# Altium integrated library Altera Arria GX.IntLib: 44 symbols (part 3 of 23)
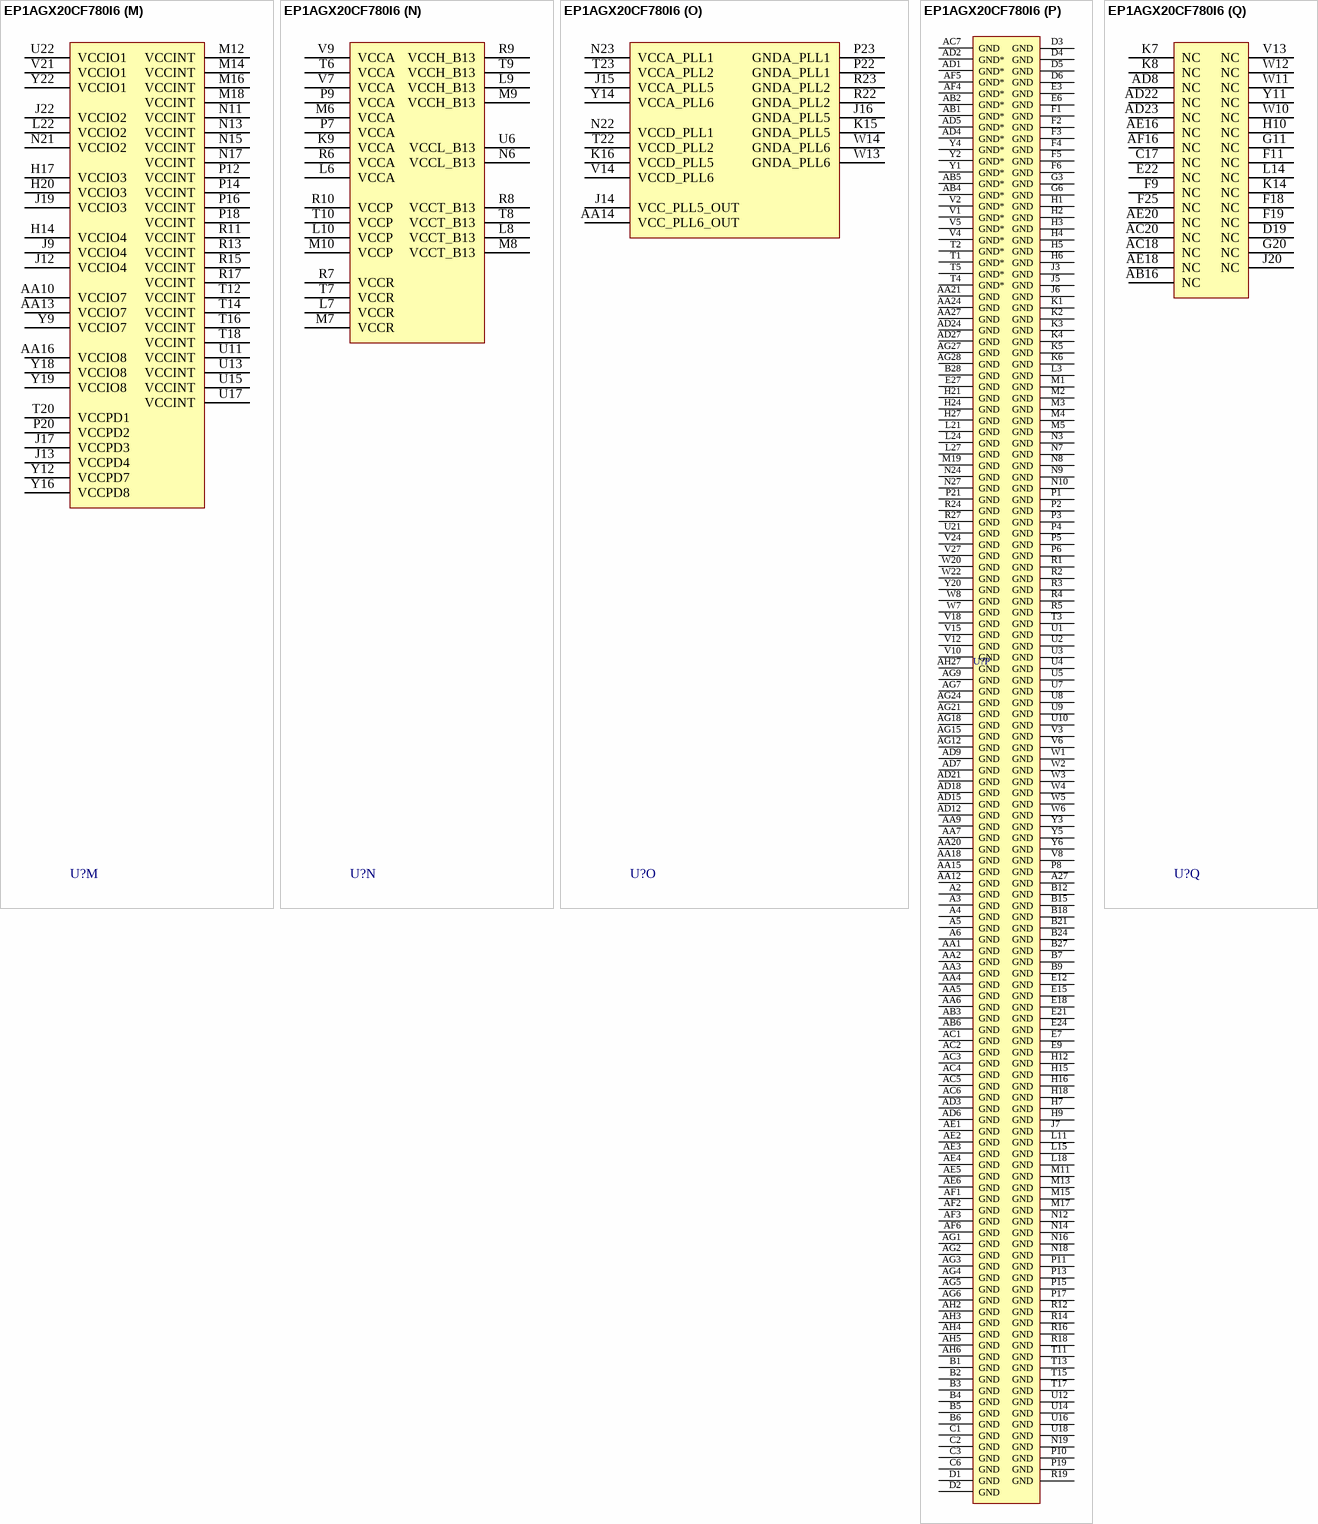
[diagram p142: symbol EP1AGX20CF780I6]

## EP1AGX20CF780I6
designator U?
Arria GX Family FPGA, 366 I/O Pins, 4 PLLs, 780-Pin FPGA, Speed Grade 6, Industrial Grade; Note: DQS signal pins named according to DQ bus modes.  "/" separates each mode. ie. Modes x8/x9 / Modes x16/x18.; DatasheetVersion: ver1.3, May-2008; PackageVersion: ver16.0, Dec-2009; PackageReference: FBGA780; PackageDescription: 780-Ball FineLine Ball Grid Array (FBGA780) - Option 1 - Flip Chip; Code_JEDEC: MS-034-AAM-1; ComponentLink1Description: Manufacturer URL; ComponentLink1URL: http://www.altera.com/; ComponentLink2Description: Datasheet; ComponentLink2URL: http://www.altera.com/literature/hb/agx/arriagx_handbook.pdf; ComponentLink3Description: Package Specification; ComponentLink3URL: http://www.altera.com/literature/ds/dspkg.pdf
footprint FBGA780 (BGA, 780-Leads, Body 29x29mm, Pitch 1mm)
part A pins: AA22 IO, DIFFIO_TX0n (io), AA23 IO, DIFFIO_TX0p (io), AA25 IO, DIFFIO_TX8n (io), AA26 IO, DIFFIO_TX8p (io), AA28 IO, DIFFIO_RX11n (io), AB21 IO, DIFFIO_TX4n (io), AB22 IO, DIFFIO_TX4p (io), AB23 IO, DIFFIO_TX2n (io), AB24 IO, DIFFIO_TX2p (io), AB25 IO, DIFFIO_RX2n (io), AB26 IO, DIFFIO_RX2p (io), AB27 IO, DIFFIO_RX7n (io), AB28 IO, DIFFIO_RX7p (io), AC22 IO, DIFFIO_TX1n (io), AC23 IO, DIFFIO_TX1p (io), AC24 IO, DIFFIO_TX5n (io), AC25 IO, DIFFIO_TX5p (io), AC26 IO, DIFFIO_RX3n (io), AC27 IO, DIFFIO_RX3p (io), AC28 IO, DIFFIO_RX6p (io), AD25 IO, DIFFIO_RX5n (io), AD26 IO, DIFFIO_RX5p (io), AD28 IO, DIFFIO_RX6n (io), AE25 IO, DIFFIO_TX3n (io), AE26 IO, DIFFIO_TX3p (io), AE27 IO, DIFFIO_RX1n (io), AE28 IO, DIFFIO_RX1p (io), AF27 IO, DIFFIO_RX0n (io), AF28 IO, DIFFIO_RX0p (io), T19 IO, DIFFIO_TX12p (io), U19 IO, DIFFIO_TX12n (io), U20 IO, DIFFIO_TX11p (io), U23 IO, DIFFIO_TX9n (io), U24 IO, DIFFIO_TX9p (io), U27 IO, CLK2n/DIFFIO_RX_C1n (io), U28 IO, CLK2p/DIFFIO_RX_C1p (io), V20 IO, DIFFIO_TX11n (io), V22 IO, DIFFIO_TX7n (io), V23 IO, DIFFIO_TX7p (io), V25 IO, DIFFIO_RX8n (io), V26 IO, DIFFIO_RX8p (io), V28 IO, DIFFIO_RX12p (io), W21 IO, DIFFIO_TX6p (io), W24 IO, DIFFIO_RX4n (io), W25 IO, DIFFIO_RX4p (io), W26 IO, DIFFIO_RX10n (io), W27 IO, DIFFIO_RX10p (io), W28 IO, DIFFIO_RX12n (io), Y21 IO, DIFFIO_TX6n (io), Y24 IO, DIFFIO_TX10n (io), Y25 IO, DIFFIO_TX10p (io), Y26 IO, DIFFIO_RX9n (io), Y27 IO, DIFFIO_RX9p (io), Y28 IO, DIFFIO_RX11p (io)
part B pins: C27 IO, DIFFIO_RX28n (io), C28 IO, DIFFIO_RX28p (io), D27 IO, DIFFIO_RX27n (io), D28 IO, DIFFIO_RX27p (io), E25 IO, DIFFIO_TX25n (io), E26 IO, DIFFIO_TX25p (io), E28 IO, DIFFIO_RX25p (io), F23 IO, DIFFIO_TX27n (io), F24 IO, DIFFIO_TX27p (io), F26 IO, DIFFIO_RX26n (io), F27 IO, DIFFIO_RX26p (io), F28 IO, DIFFIO_RX25n (io), G23 IO, DIFFIO_TX26n (io), G24 IO, DIFFIO_TX26p (io), G25 IO, DIFFIO_TX21n (io), G26 IO, DIFFIO_TX21p (io), G27 IO, DIFFIO_RX24n (io), G28 IO, DIFFIO_RX24p (io), H22 IO, DIFFIO_TX28n (io), H23 IO, DIFFIO_TX28p (io), H25 IO, DIFFIO_TX18n (io), H26 IO, DIFFIO_TX18p (io), H28 IO, DIFFIO_RX22p (io), J23 IO, DIFFIO_TX24n (io), J24 IO, DIFFIO_TX19n (io), J25 IO, DIFFIO_TX19p (io), J26 IO, DIFFIO_RX23n (io), J27 IO, DIFFIO_RX23p (io), J28 IO, DIFFIO_RX22n (io), K21 IO, DIFFIO_TX23n (io), K22 IO, DIFFIO_TX23p (io), K23 IO, DIFFIO_TX22p (io), K24 IO, DIFFIO_TX24p (io), K25 IO, DIFFIO_TX17n (io), K26 IO, DIFFIO_TX17p (io), K27 IO, DIFFIO_RX20n (io), K28 IO, DIFFIO_RX20p (io), L23 IO, DIFFIO_TX22n (io), L25 IO, DIFFIO_RX21n (io), L26 IO, DIFFIO_RX21p (io), L28 IO, DIFFIO_RX18p (io), M20 IO, DIFFIO_TX14p (io), M21 IO, DIFFIO_TX20n (io), M22 IO, DIFFIO_TX20p (io), M24 IO, DIFFIO_TX16n (io), M25 IO, DIFFIO_TX16p (io), M26 IO, DIFFIO_RX19n (io), M27 IO, DIFFIO_RX19p (io), M28 IO, DIFFIO_RX18n (io), N20 IO, DIFFIO_TX14n (io), N25 IO, DIFFIO_RX16n (io), N26 IO, DIFFIO_RX16p (io), N28 IO, DIFFIO_RX17p (io), P24 IO, DIFFIO_TX15n (io), P25 IO, DIFFIO_TX15p (io), P26 IO, DIFFIO_RX15n (io), P27 IO, DIFFIO_RX15p (io), P28 IO, DIFFIO_RX17n (io), R20 IO, DIFFIO_TX13n (io), R21 IO, DIFFIO_TX13p (io), R25 IO, CLK0n/DIFFIO_RX_C0n (io), R26 IO, CLK0p/DIFFIO_RX_C0p (io), R28 IO, DIFFIO_RX14p (io), T26 IO, DIFFIO_RX13n (io), T27 IO, DIFFIO_RX13p (io), T28 IO, DIFFIO_RX14n (io)
part C pins: A17 IO, CLK14p (io), A18 IO, DQ11T, DQ2T/DQ1T (io), A19 IO, DQS11T, DQS2T/_ (io), A20 IO, DQ11T, DQ2T/DQ1T (io), A21 IO, DQ13T, DQ2T/DQ1T (io), A22 IO, DQ13T, DQ2T/DQ1T (io), A23 IO, DQ15T, DQ3T/DQ1T (io), A24 IO, DQ15T, DQ3T/DQ1T (io), A25 IO, DQ17T, DQ3T/DQ1T (io), A26 IO, DQ17T, DQ3T/DQ1T (io), B17 IO, CLK14n (io), B19 IO, _/DQ1T (io), B20 IO, DQS13T, _/DQS1T (io), B22 IO, DQ13T, DQ2T/DQ1T (io), B23 IO, DQS15T, DQS3T/_ (io), B25 IO, DQS17T (io), B26 IO, DQ17T, DQ3T/_ (io), C16 IO, CLK15p (io), C18 IO, DQ11T, DQ2T/DQ1T (io), C19 IO, DQ11T, DQ2T/DQ1T (io), C20 IO, DQ2T/_ (io), C21 IO, DQ13T, DQ2T/DQ1T (io), C22 IO, DQ15T, DQ3T/DQ1T (io), C23 IO, _/DQ1T (io), C24 IO, DQ15T, DQ3T/DQ1T (io), C25 IO, DQ3T/DQ1T (io), C26 IO, DQ17T, DQ3T/DQ1T (io), D16 IO, CLK15n (io), D17 IO (nCSO) (io), D18 IO (io), D20 IO (io), D21 IO (DATA3) (io), D22 IO (DATA7) (io), D23 IO (DATA5) (io), E16 IO (PGM2) (io), E17 IO (CRC_ERROR) (io), F16 IO (PGM1) (io), F17 IO (DATA0) (io), F20 IO (io), F21 IO (DATA2) (io), F22 IO (DATA6) (io), G16 IO (PGM0) (io), G17 IO (io), G18 IO (io), G19 IO (io), G21 IO (DATA4) (io), G22 IO (INIT_DONE) (io), H19 IO (io), J18 IO (io), J21 IO (RDYnBSY) (io), K17 IO (DATA1) (io), K18 IO (io), K19 IO (io), K20 IO (io), L16 IO (ASDO) (io), L17 IO (io), L19 IO (io), L20 IO (io)
part D pins: A7 IO, DQ1T (io), A8 IO, DQ1T (io), A9 IO, DQ3T, DQ0T/DQ0T (io), A10 IO, DQ5T, DQ0T/DQ0T (io), A11 IO, DQ7T, DQ1T/DQ0T (io), A12 IO, DQ7T, DQ1T/DQ0T (io), A13 IO, DQ9T, DQ1T/DQ0T (io), A16 IO, CLK12p (io), B8 IO (io), B10 IO, DQ3T, DQ0T/DQ0T (io), B11 IO, DQ0T/_ (io), B13 IO, DQ9T, DQ1T/DQ0T (io), B14 IO, DQS9T (io), B16 IO, CLK12n (io), C7 IO, RUP4 (io), C8 IO, DQS1T (io), C9 IO, DQ3T, DQ0T/DQ0T (io), C10 IO, _/DQ0T (io), C11 IO, DQS5T, _/DQS0T (io), C12 IO, DQ5T, DQ0T/DQ0T (io), C13 IO, _/DQ0T (io), C14 IO, DQ1T/DQ0T (io), D7 IO, RDN4 (io), D8 IO, DQ1T (io), D9 IO, DQ1T (io), D10 IO, DQS3T, DQS0T/_ (io), D11 IO, DQ5T, DQ0T/DQ0T (io), D12 IO, DQ5T, DQ0T/DQ0T (io), D13 IO, DQS7T, DQS1T/_ (io), D14 IO, DQ9T, DQ1T/_ (io), E10 IO (io), E11 IO, DQ3T, DQ0T/DQ0T (io), E13 IO, DQ7T, DQ1T/DQ0T (io), E14 IO, DQ9T, DQ1T/DQ0T (io), F13 IO, DQ7T, DQ1T/DQ0T (io), F15 IO, CLK13p (io), G9 IO (io), G10 IO (io), G12 IO (io), G13 IO (io), G15 IO, CLK13n (io), H11 IO (io), H13 IO (io), J10 IO (io), J11 IO (io), K10 IO (io), K11 IO (io), K12 IO (io), K13 IO (io), L12 IO (io), L13 IO (io)
part E pins: AA11 IO (io), AB8 IO, RUP7 (io), AB9 IO (io), AB10 IO (io), AB11 IO (io), AB12 IO (io), AB13 IO (io), AC8 IO, RDN7 (io), AC9 IO (io), AC11 IO (io), AC12 IO (io), AC13 IO, DQ9B, DQ1B/DQ0B (io), AC14 IO, DQ9B, DQ1B/DQ0B (io), AD10 IO, DQ3B, DQ0B/DQ0B (io), AD11 IO, DQ5B, DQ0B/DQ0B (io), AD13 IO, DQ9B, DQ1B/DQ0B (io), AE7 IO, DQ1B (io), AE8 IO, DQ1B (io), AE9 IO, DQS3B, DQS0B/_ (io), AE10 IO, DQ3B, DQ0B/DQ0B (io), AE11 IO, DQS5B, _/DQS0B (io), AE12 IO, DQS7B, DQS1B/_ (io), AE13 IO, DQ1B/DQ0B (io), AE15 IO, CLK7n (io), AF7 IO, DQ1B (io), AF8 IO, DQS1B (io), AF9 IO, _/DQ0B (io), AF10 IO, DQ5B, DQ0B/DQ0B (io), AF11 IO, DQ0B/_ (io), AF12 IO, _/DQ0B (io), AF13 IO, DQS9B (io), AF15 IO, CLK7p (io), AG8 IO (io), AG10 IO, DQ5B, DQ0B/DQ0B (io), AG11 IO, DQ7B, DQ1B/DQ0B (io), AG13 IO, DQ9B, DQ1B/_ (io), AG16 IO, CLK6n (io), AH7 IO, DQ1B (io), AH8 IO, DQ3B, DQ0B/DQ0B (io), AH9 IO, DQ3B, DQ0B/DQ0B (io), AH10 IO, DQ5B, DQ0B/DQ0B (io), AH11 IO, DQ7B, DQ1B/DQ0B (io), AH12 IO, DQ7B, DQ1B/DQ0B (io), AH13 IO, DQ7B, DQ1B/DQ0B (io), AH16 IO, CLK6p (io), V11 IO (io), W9 IO (io), Y10 IO (io), Y13 IO (io)
part F pins: AA17 IO (io), AA19 IO (io), AB15 IO, CLK5n (io), AB17 IO (io), AB18 IO (io), AB19 IO (io), AB20 IO (io), AC15 IO, CLK5p (io), AC16 IO (RUnLU) (io), AC17 IO (io), AC19 IO (io), AC21 IO (CLKUSR) (io), AD16 IO (DEV_OE) (io), AD20 IO (io), AE17 IO (DEV_CLRn) (io), AE19 IO (io), AE21 IO (nRS) (io), AE22 IO (nWS) (io), AE23 IO (io), AE24 IO (CS) (io), AF17 IO (nCS) (io), AF18 IO, DQ11B, DQ2B/DQ1B (io), AF19 IO, DQ11B, DQ2B/DQ1B (io), AF20 IO, DQ2B/_ (io), AF21 IO, DQ13B, DQ2B/DQ1B (io), AF22 IO, DQ15B, DQ3B/DQ1B (io), AF23 IO, _/DQ1B (io), AF24 IO, DQ15B, DQ3B/DQ1B (io), AF25 IO, DQ3B/DQ1B (io), AF26 IO, DQ17B, DQ3B/_ (io), AG17 IO, CLK4n (io), AG19 IO, _/DQ1B (io), AG20 IO, DQS13B, _/DQS1B (io), AG22 IO, DQ13B, DQ2B/DQ1B (io), AG23 IO, DQS15B, DQS3B/_ (io), AG25 IO, DQS17B (io), AG26 IO, DQ17B, DQ3B/DQ1B (io), AH17 IO, CLK4p (io), AH18 IO, DQ11B, DQ2B/DQ1B (io), AH19 IO, DQS11B, DQS2B/_ (io), AH20 IO, DQ11B, DQ2B/DQ1B (io), AH21 IO, DQ13B, DQ2B/DQ1B (io), AH22 IO, DQ13B, DQ2B/DQ1B (io), AH23 IO, DQ15B, DQ3B/DQ1B (io), AH24 IO, DQ15B, DQ3B/DQ1B (io), AH25 IO, DQ17B, DQ3B/DQ1B (io), AH26 IO, DQ17B, DQ3B/DQ1B (io), W15 IO (io), W16 IO (io), Y15 IO (io), Y17 IO (io)
part G pins: A14 IO, PLL5_OUT0n (io), A15 IO, PLL5_OUT0p (io), C15 IO, PLL5_OUT1p (io), D15 IO, PLL5_OUT1n (io), F14 IO, PLL5_FBp/OUT2p (io), G14 IO, PLL5_FBn/OUT2n (io)
part H pins: AD14 IO, PLL6_FBn/OUT2n (io), AE14 IO, PLL6_FBp/OUT2p (io), AF14 IO, PLL6_OUT1n (io), AG14 IO, PLL6_OUT1p (io), AH14 IO, PLL6_OUT0n (io), AH15 IO, PLL6_OUT0p (io)
part I pins: C4 GXB_TX1p (out), C5 GXB_TX1n (out), E1 GXB_RX1p (in), E2 GXB_RX1n (in), E4 GXB_TX0p (out), E5 GXB_TX0n (out), G1 GXB_RX0p (in), G2 GXB_RX0n (in), G4 REFCLK1_B13p (in), G5 REFCLK1_B13n (in), J1 REFCLK0_B13p (in), J2 REFCLK0_B13n (in), J4 RREFB13 (in), L1 GXB_RX2p (in), L2 GXB_RX2n (in), L4 GXB_TX2p (out), L5 GXB_TX2n (out), N1 GXB_RX3p (in), N2 GXB_RX3n (in), N4 GXB_TX3p (out), N5 GXB_TX3n (out)
part J pins: T24 CLK1n, INPUT (in), T25 CLK1p, INPUT (in), U25 CLK3n, INPUT (in), U26 CLK3p, INPUT (in)
part K pins: AB14 VREFB7N0 (in), AC10 VREFB7N1 (in), AD17 VREFB8N1 (in), AD19 VREFB8N0 (in), E19 VREFB3N0 (in), E20 VREFB3N1 (in), F10 VREFB4N0 (in), F12 VREFB4N1 (in), M23 VREFB2N1 (in), T21 VREFB2N0 (in), W23 VREFB1N1 (in), Y23 VREFB1N0 (in)
part L pins: AA8 PLL_ENA (in), AB7 nCEO (out), D24 nCE (in), D25 DCLK (io), D26 nSTATUS (io), E8 MSEL1 (in), E23 CONF_DONE (io), F7 TEMPDIODEp (in), F8 TDO (out), G7 TEMPDIODEn (in), G8 MSEL3 (in), H8 MSEL2 (in), J8 MSEL0 (in), V16 nCONFIG (in), V17 TCK (in), V19 TDI (in), W17 TRST (in), W18 VCCSEL (in), W19 TMS (in), Y7 nIO_PULLUP (in), Y8 PORSEL (in)
part M pins: AA10 VCCIO7 (power), AA13 VCCIO7 (power), AA16 VCCIO8 (power), H14 VCCIO4 (power), H17 VCCIO3 (power), H20 VCCIO3 (power), J9 VCCIO4 (power), J12 VCCIO4 (power), J13 VCCPD4 (power), J17 VCCPD3 (power), J19 VCCIO3 (power), J22 VCCIO2 (power), L22 VCCIO2 (power), M12 VCCINT (power), M14 VCCINT (power), M16 VCCINT (power), M18 VCCINT (power), N11 VCCINT (power), N13 VCCINT (power), N15 VCCINT (power), N17 VCCINT (power), N21 VCCIO2 (power), P12 VCCINT (power), P14 VCCINT (power), P16 VCCINT (power), P18 VCCINT (power), P20 VCCPD2 (power), R11 VCCINT (power), R13 VCCINT (power), R15 VCCINT (power), R17 VCCINT (power), T12 VCCINT (power), T14 VCCINT (power), T16 VCCINT (power), T18 VCCINT (power), T20 VCCPD1 (power), U11 VCCINT (power), U13 VCCINT (power), U15 VCCINT (power), U17 VCCINT (power), U22 VCCIO1 (power), V21 VCCIO1 (power), Y9 VCCIO7 (power), Y12 VCCPD7 (power), Y16 VCCPD8 (power), Y18 VCCIO8 (power), Y19 VCCIO8 (power), Y22 VCCIO1 (power)
part N pins: K9 VCCA (power), L6 VCCA (power), L7 VCCR (power), L8 VCCT_B13 (power), L9 VCCH_B13 (power), L10 VCCP (power), M6 VCCA (power), M7 VCCR (power), M8 VCCT_B13 (power), M9 VCCH_B13 (power), M10 VCCP (power), N6 VCCL_B13 (power), P7 VCCA (power), P9 VCCA (power), R6 VCCA (power), R7 VCCR (power), R8 VCCT_B13 (power), R9 VCCH_B13 (power), R10 VCCP (power), T6 VCCA (power), T7 VCCR (power), T8 VCCT_B13 (power), T9 VCCH_B13 (power), T10 VCCP (power), U6 VCCL_B13 (power), V7 VCCA (power), V9 VCCA (power)
part O pins: AA14 VCC_PLL6_OUT (power), J14 VCC_PLL5_OUT (power), J15 VCCA_PLL5 (power), J16 GNDA_PLL5 (power), K15 GNDA_PLL5 (power), K16 VCCD_PLL5 (power), N22 VCCD_PLL1 (power), N23 VCCA_PLL1 (power), P22 GNDA_PLL1 (power), P23 GNDA_PLL1 (power), R22 GNDA_PLL2 (power), R23 GNDA_PLL2 (power), T22 VCCD_PLL2 (power), T23 VCCA_PLL2 (power), V14 VCCD_PLL6 (power), W13 GNDA_PLL6 (power), W14 GNDA_PLL6 (power), Y14 VCCA_PLL6 (power)
part P pins: A2 GND (power), A3 GND (power), A4 GND (power), A5 GND (power), A6 GND (power), A27 GND (power), AA1 GND (power), AA2 GND (power), AA3 GND (power), AA4 GND (power), AA5 GND (power), AA6 GND (power), AA7 GND (power), AA9 GND (power), AA12 GND (power), AA15 GND (power), AA18 GND (power), AA20 GND (power), AA21 GND (power), AA24 GND (power), AA27 GND (power), AB1 GND* (power), AB2 GND* (power), AB3 GND (power), AB4 GND* (power), AB5 GND* (power), AB6 GND (power), AC1 GND (power), AC2 GND (power), AC3 GND (power), AC4 GND (power), AC5 GND (power), AC6 GND (power), AC7 GND (power), AD1 GND* (power), AD2 GND* (power), AD3 GND (power), AD4 GND* (power), AD5 GND* (power), AD6 GND (power), AD7 GND (power), AD9 GND (power), AD12 GND (power), AD15 GND (power), AD18 GND (power), AD21 GND (power), AD24 GND (power), AD27 GND (power), AE1 GND (power), AE2 GND (power), AE3 GND (power), AE4 GND (power), AE5 GND (power), AE6 GND (power), AF1 GND (power), AF2 GND (power), AF3 GND (power), AF4 GND* (power), AF5 GND* (power), AF6 GND (power), AG1 GND (power), AG2 GND (power), AG3 GND (power), AG4 GND (power), AG5 GND (power), AG6 GND (power), AG7 GND (power), AG9 GND (power), AG12 GND (power), AG15 GND (power), AG18 GND (power), AG21 GND (power), AG24 GND (power), AG27 GND (power), AG28 GND (power), AH2 GND (power), AH3 GND (power), AH4 GND (power), AH5 GND (power), AH6 GND (power), AH27 GND (power), B1 GND (power), B2 GND (power), B3 GND (power), B4 GND (power), B5 GND (power), B6 GND (power), B7 GND (power), B9 GND (power), B12 GND (power), B15 GND (power), B18 GND (power), B21 GND (power), B24 GND (power), B27 GND (power), B28 GND (power), C1 GND (power), C2 GND (power), C3 GND (power), C6 GND (power), D1 GND (power), D2 GND (power), D3 GND (power), D4 GND (power), D5 GND (power), D6 GND (power), E3 GND (power), E6 GND (power), E7 GND (power), E9 GND (power), E12 GND (power), E15 GND (power), E18 GND (power), E21 GND (power), E24 GND (power), E27 GND (power), F1 GND (power), F2 GND (power), F3 GND (power), F4 GND (power), F5 GND (power), F6 GND (power), G3 GND (power), G6 GND (power), H1 GND (power), H2 GND (power), H3 GND (power), H4 GND (power), H5 GND (power), H6 GND (power), H7 GND (power), H9 GND (power), H12 GND (power), H15 GND (power), H16 GND (power), H18 GND (power), H21 GND (power), H24 GND (power), H27 GND (power), J3 GND (power), J5 GND (power), J6 GND (power), J7 GND (power), K1 GND (power), K2 GND (power), K3 GND (power), K4 GND (power), K5 GND (power), K6 GND (power), L3 GND (power), L11 GND (power), L15 GND (power), L18 GND (power), L21 GND (power), L24 GND (power), L27 GND (power), M1 GND (power), M2 GND (power), M3 GND (power), M4 GND (power), M5 GND (power), M11 GND (power), M13 GND (power), M15 GND (power), M17 GND (power), M19 GND (power), N3 GND (power), N7 GND (power), N8 GND (power), N9 GND (power), N10 GND (power), N12 GND (power), N14 GND (power), N16 GND (power), N18 GND (power), N19 GND (power), N24 GND (power), N27 GND (power), P1 GND (power), P2 GND (power), P3 GND (power), P4 GND (power), P5 GND (power), P6 GND (power), P8 GND (power), P10 GND (power), P11 GND (power), P13 GND (power), P15 GND (power), P17 GND (power), P19 GND (power), P21 GND (power), R1 GND (power), R2 GND (power), R3 GND (power), R4 GND (power), R5 GND (power), R12 GND (power), R14 GND (power), R16 GND (power), R18 GND (power), R19 GND (power), R24 GND (power), R27 GND (power), T1 GND* (power), T2 GND* (power), T3 GND (power), T4 GND* (power), T5 GND* (power), T11 GND (power), T13 GND (power), T15 GND (power), T17 GND (power), U1 GND (power), U2 GND (power), U3 GND (power), U4 GND (power), U5 GND (power), U7 GND (power), U8 GND (power), U9 GND (power), U10 GND (power), U12 GND (power), U14 GND (power), U16 GND (power), U18 GND (power), U21 GND (power), V1 GND* (power), V2 GND* (power), V3 GND (power), V4 GND* (power), V5 GND* (power), V6 GND (power), V8 GND (power), V10 GND (power), V12 GND (power), V15 GND (power), V18 GND (power), V24 GND (power), V27 GND (power), W1 GND (power), W2 GND (power), W3 GND (power), W4 GND (power), W5 GND (power), W6 GND (power), W7 GND (power), W8 GND (power), W20 GND (power), W22 GND (power), Y1 GND* (power), Y2 GND* (power), Y3 GND (power), Y4 GND* (power), Y5 GND (power), Y6 GND (power), Y20 GND (power)
part Q pins: AB16 NC, AC18 NC, AC20 NC, AD8 NC, AD22 NC, AD23 NC, AE16 NC, AE18 NC, AE20 NC, AF16 NC, C17 NC, D19 NC, E22 NC, F9 NC, F11 NC, F18 NC, F19 NC, F25 NC, G11 NC, G20 NC, H10 NC, J20 NC, K7 NC, K8 NC, K14 NC, L14 NC, V13 NC, W10 NC, W11 NC, W12 NC, Y11 NC
part A text: BANK 1
part B text: BANK 2
part C text: BANK 3
part D text: BANK 4
part E text: BANK 7
part F text: BANK 8
part G text: BANK 9
part H text: BANK 10
part I text: BANK 13

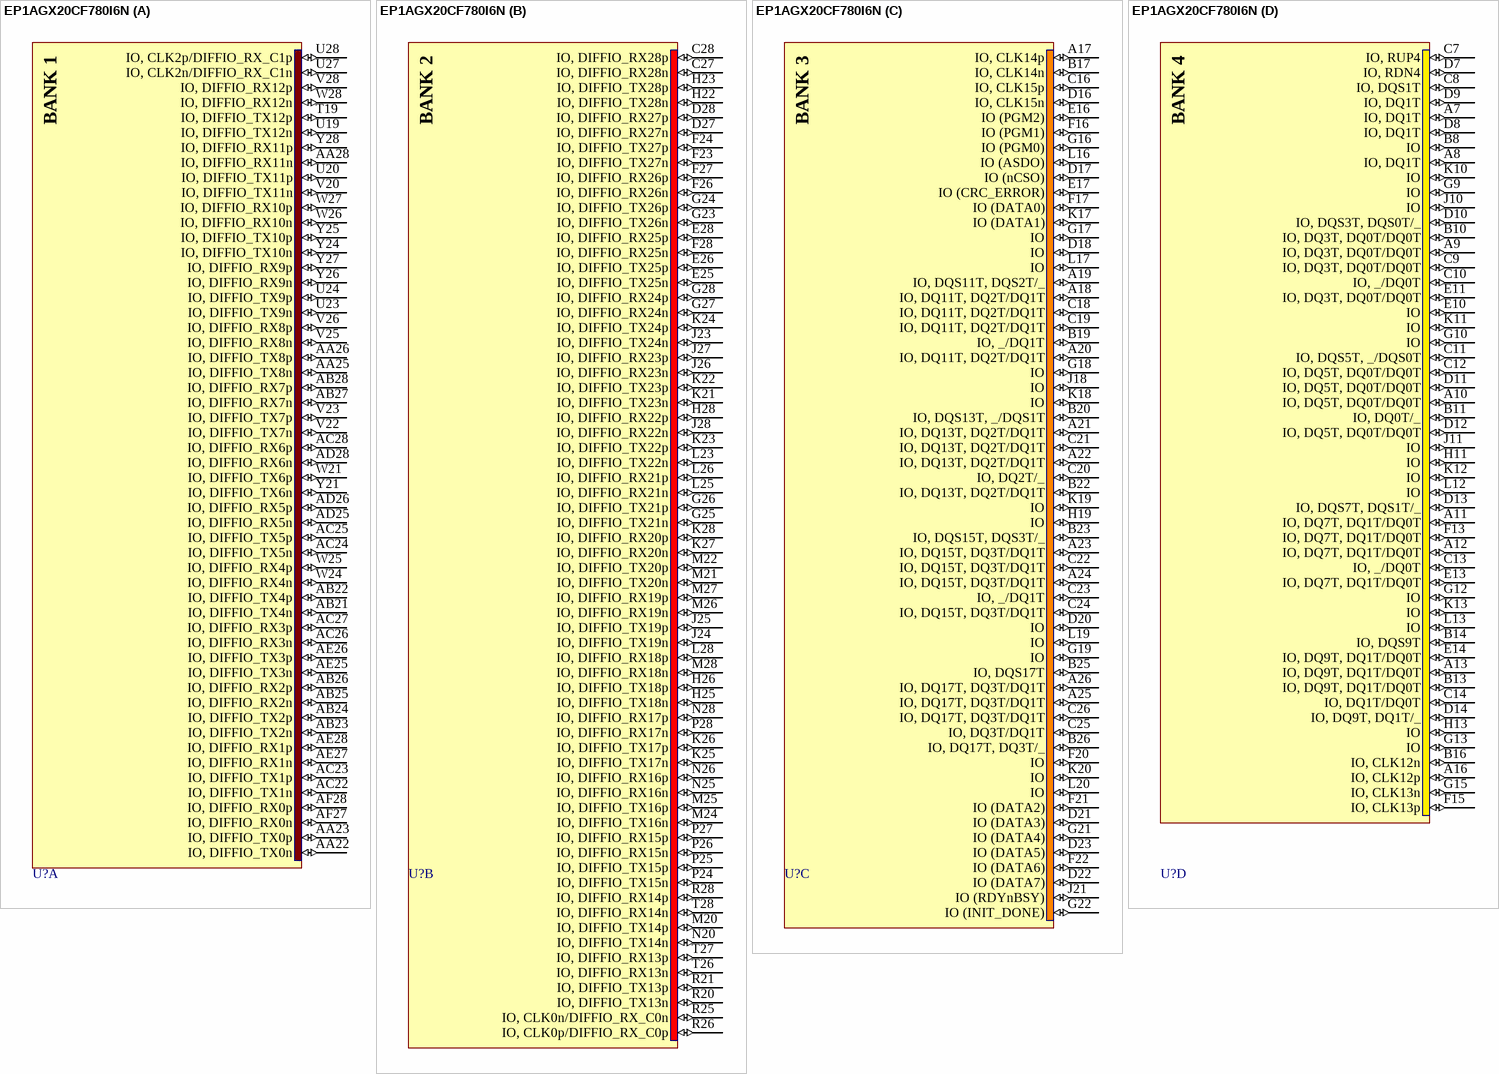
[diagram p21: symbol EP1AGX20CF780I6N]

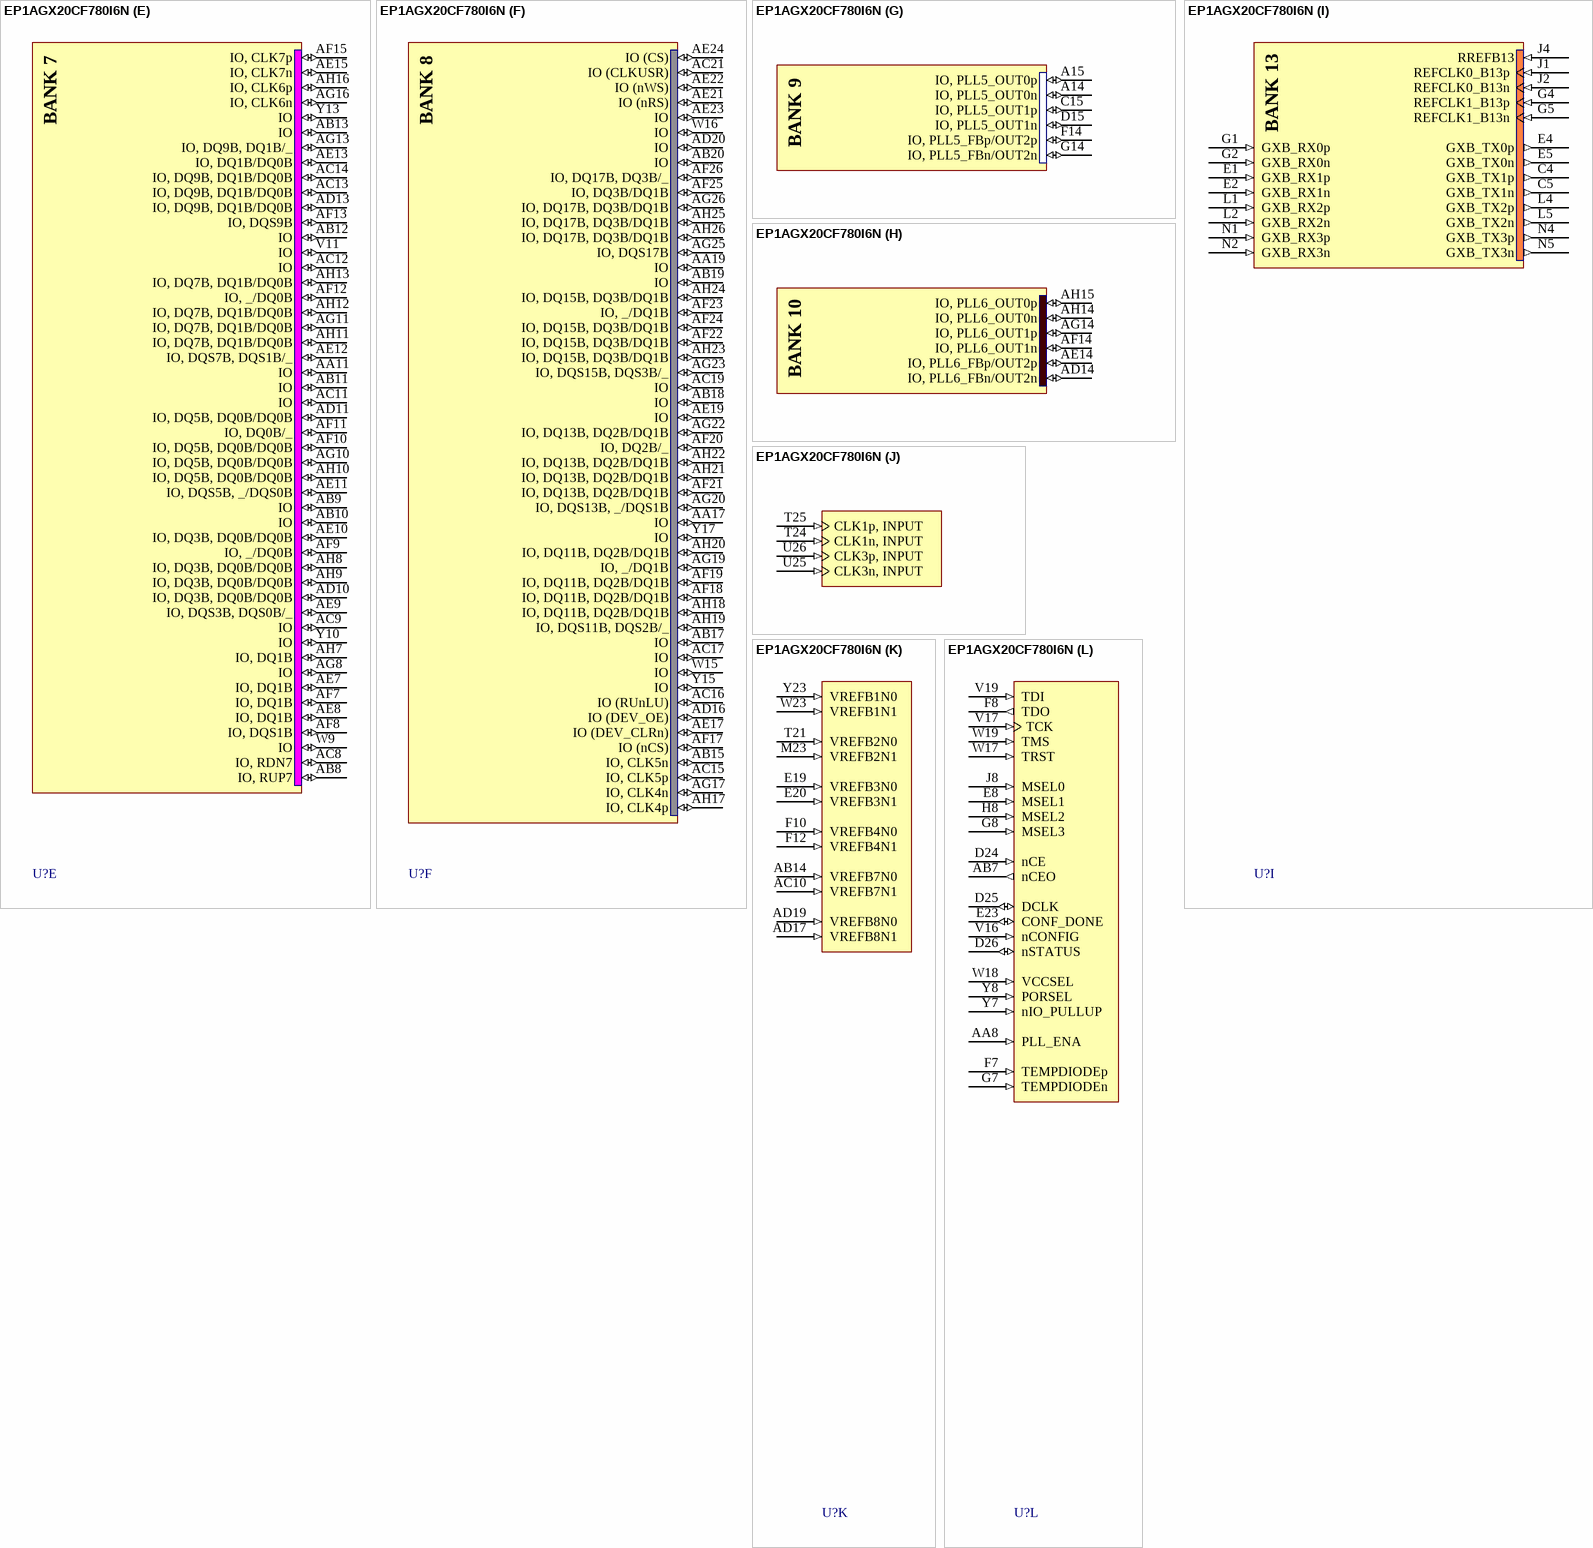
[diagram p22: symbol EP1AGX20CF780I6N]

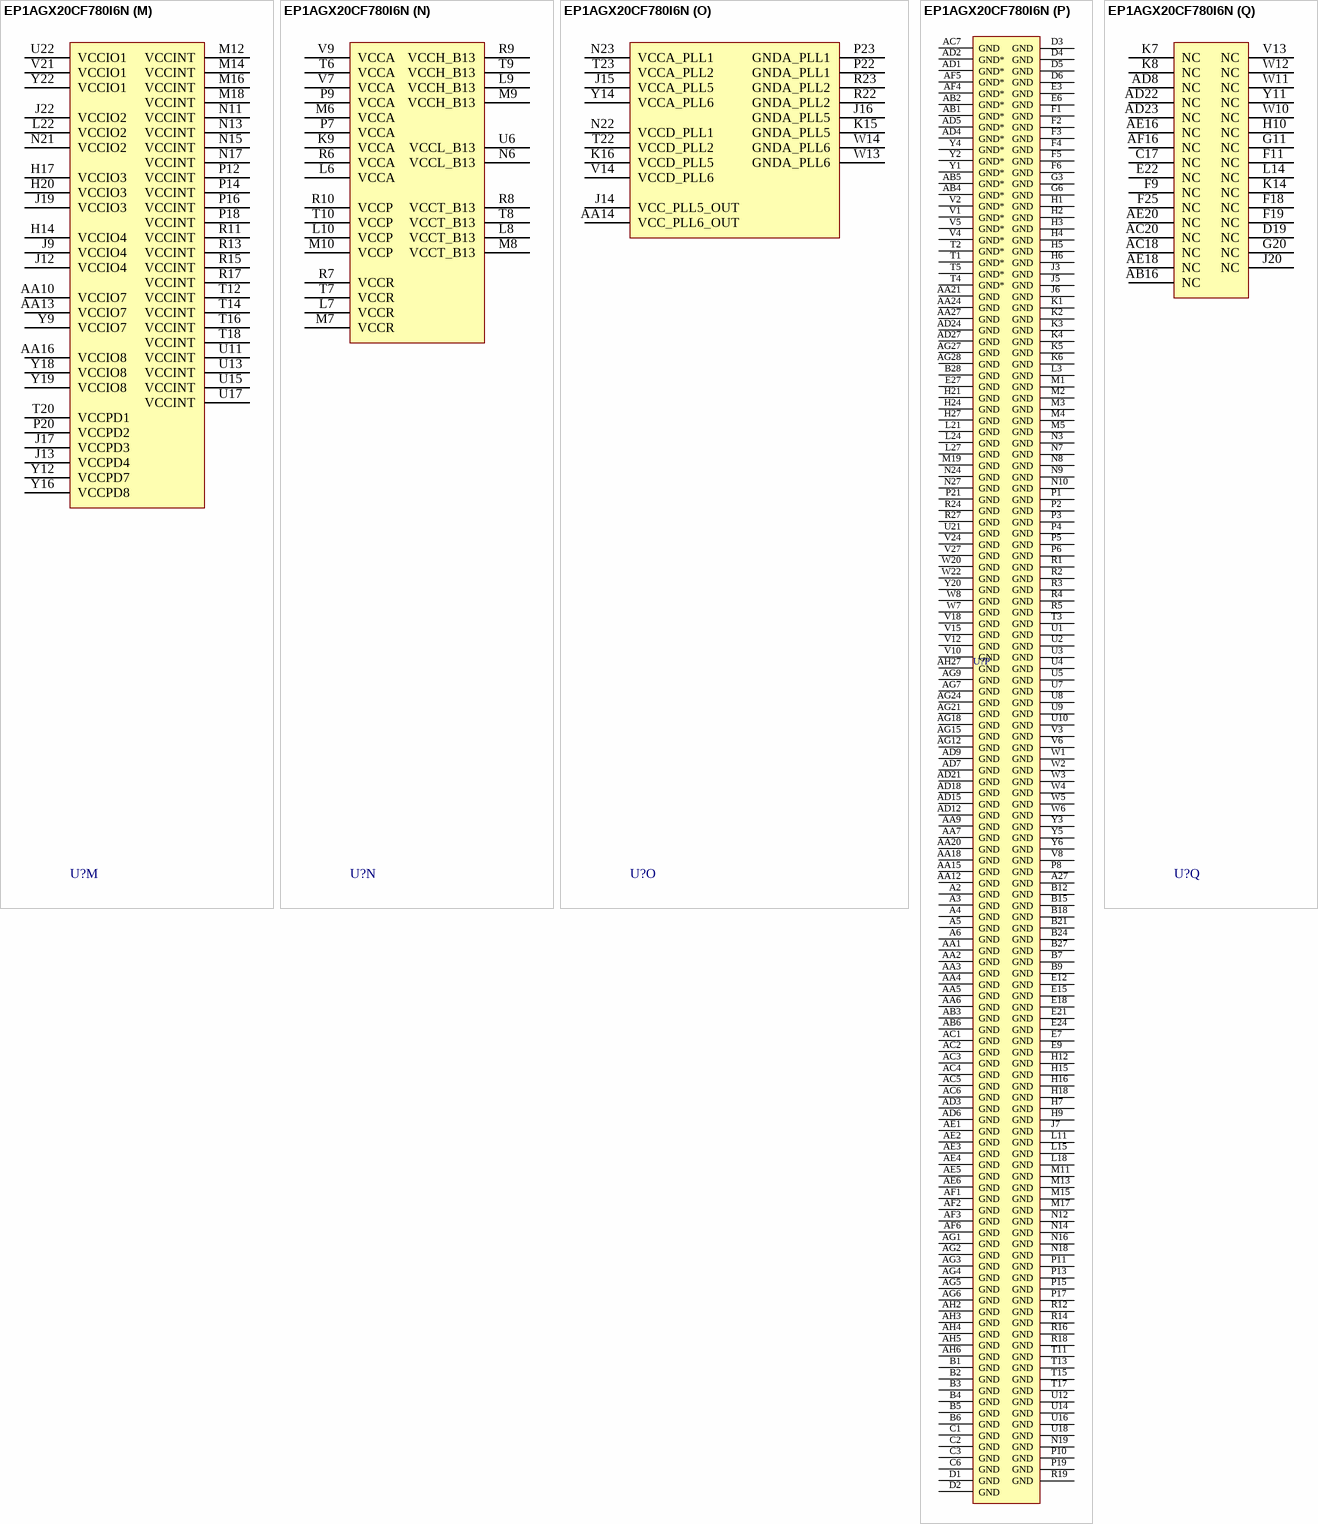
[diagram p23: symbol EP1AGX20CF780I6N]

## EP1AGX20CF780I6N
designator U?
Arria GX Family FPGA, 366 I/O Pins, 4 PLLs, 780-Pin FPGA, Speed Grade 6, Industrial Grade, Pb-Free; Note: DQS signal pins named according to DQ bus modes.  "/" separates each mode. ie. Modes x8/x9 / Modes x16/x18.; DatasheetVersion: ver1.3, May-2008; PackageVersion: ver16.0, Dec-2009; PackageReference: FBGA780; PackageDescription: 780-Ball FineLine Ball Grid Array (FBGA780) - Option 1 - Flip Chip; Code_JEDEC: MS-034-AAM-1; ComponentLink1Description: Manufacturer URL; ComponentLink1URL: http://www.altera.com/; ComponentLink2Description: Datasheet; ComponentLink2URL: http://www.altera.com/literature/hb/agx/arriagx_handbook.pdf; ComponentLink3Description: Package Specification; ComponentLink3URL: http://www.altera.com/literature/ds/dspkg.pdf
footprint FBGA780 (BGA, 780-Leads, Body 29x29mm, Pitch 1mm)
part A pins: AA22 IO, DIFFIO_TX0n (io), AA23 IO, DIFFIO_TX0p (io), AA25 IO, DIFFIO_TX8n (io), AA26 IO, DIFFIO_TX8p (io), AA28 IO, DIFFIO_RX11n (io), AB21 IO, DIFFIO_TX4n (io), AB22 IO, DIFFIO_TX4p (io), AB23 IO, DIFFIO_TX2n (io), AB24 IO, DIFFIO_TX2p (io), AB25 IO, DIFFIO_RX2n (io), AB26 IO, DIFFIO_RX2p (io), AB27 IO, DIFFIO_RX7n (io), AB28 IO, DIFFIO_RX7p (io), AC22 IO, DIFFIO_TX1n (io), AC23 IO, DIFFIO_TX1p (io), AC24 IO, DIFFIO_TX5n (io), AC25 IO, DIFFIO_TX5p (io), AC26 IO, DIFFIO_RX3n (io), AC27 IO, DIFFIO_RX3p (io), AC28 IO, DIFFIO_RX6p (io), AD25 IO, DIFFIO_RX5n (io), AD26 IO, DIFFIO_RX5p (io), AD28 IO, DIFFIO_RX6n (io), AE25 IO, DIFFIO_TX3n (io), AE26 IO, DIFFIO_TX3p (io), AE27 IO, DIFFIO_RX1n (io), AE28 IO, DIFFIO_RX1p (io), AF27 IO, DIFFIO_RX0n (io), AF28 IO, DIFFIO_RX0p (io), T19 IO, DIFFIO_TX12p (io), U19 IO, DIFFIO_TX12n (io), U20 IO, DIFFIO_TX11p (io), U23 IO, DIFFIO_TX9n (io), U24 IO, DIFFIO_TX9p (io), U27 IO, CLK2n/DIFFIO_RX_C1n (io), U28 IO, CLK2p/DIFFIO_RX_C1p (io), V20 IO, DIFFIO_TX11n (io), V22 IO, DIFFIO_TX7n (io), V23 IO, DIFFIO_TX7p (io), V25 IO, DIFFIO_RX8n (io), V26 IO, DIFFIO_RX8p (io), V28 IO, DIFFIO_RX12p (io), W21 IO, DIFFIO_TX6p (io), W24 IO, DIFFIO_RX4n (io), W25 IO, DIFFIO_RX4p (io), W26 IO, DIFFIO_RX10n (io), W27 IO, DIFFIO_RX10p (io), W28 IO, DIFFIO_RX12n (io), Y21 IO, DIFFIO_TX6n (io), Y24 IO, DIFFIO_TX10n (io), Y25 IO, DIFFIO_TX10p (io), Y26 IO, DIFFIO_RX9n (io), Y27 IO, DIFFIO_RX9p (io), Y28 IO, DIFFIO_RX11p (io)
part B pins: C27 IO, DIFFIO_RX28n (io), C28 IO, DIFFIO_RX28p (io), D27 IO, DIFFIO_RX27n (io), D28 IO, DIFFIO_RX27p (io), E25 IO, DIFFIO_TX25n (io), E26 IO, DIFFIO_TX25p (io), E28 IO, DIFFIO_RX25p (io), F23 IO, DIFFIO_TX27n (io), F24 IO, DIFFIO_TX27p (io), F26 IO, DIFFIO_RX26n (io), F27 IO, DIFFIO_RX26p (io), F28 IO, DIFFIO_RX25n (io), G23 IO, DIFFIO_TX26n (io), G24 IO, DIFFIO_TX26p (io), G25 IO, DIFFIO_TX21n (io), G26 IO, DIFFIO_TX21p (io), G27 IO, DIFFIO_RX24n (io), G28 IO, DIFFIO_RX24p (io), H22 IO, DIFFIO_TX28n (io), H23 IO, DIFFIO_TX28p (io), H25 IO, DIFFIO_TX18n (io), H26 IO, DIFFIO_TX18p (io), H28 IO, DIFFIO_RX22p (io), J23 IO, DIFFIO_TX24n (io), J24 IO, DIFFIO_TX19n (io), J25 IO, DIFFIO_TX19p (io), J26 IO, DIFFIO_RX23n (io), J27 IO, DIFFIO_RX23p (io), J28 IO, DIFFIO_RX22n (io), K21 IO, DIFFIO_TX23n (io), K22 IO, DIFFIO_TX23p (io), K23 IO, DIFFIO_TX22p (io), K24 IO, DIFFIO_TX24p (io), K25 IO, DIFFIO_TX17n (io), K26 IO, DIFFIO_TX17p (io), K27 IO, DIFFIO_RX20n (io), K28 IO, DIFFIO_RX20p (io), L23 IO, DIFFIO_TX22n (io), L25 IO, DIFFIO_RX21n (io), L26 IO, DIFFIO_RX21p (io), L28 IO, DIFFIO_RX18p (io), M20 IO, DIFFIO_TX14p (io), M21 IO, DIFFIO_TX20n (io), M22 IO, DIFFIO_TX20p (io), M24 IO, DIFFIO_TX16n (io), M25 IO, DIFFIO_TX16p (io), M26 IO, DIFFIO_RX19n (io), M27 IO, DIFFIO_RX19p (io), M28 IO, DIFFIO_RX18n (io), N20 IO, DIFFIO_TX14n (io), N25 IO, DIFFIO_RX16n (io), N26 IO, DIFFIO_RX16p (io), N28 IO, DIFFIO_RX17p (io), P24 IO, DIFFIO_TX15n (io), P25 IO, DIFFIO_TX15p (io), P26 IO, DIFFIO_RX15n (io), P27 IO, DIFFIO_RX15p (io), P28 IO, DIFFIO_RX17n (io), R20 IO, DIFFIO_TX13n (io), R21 IO, DIFFIO_TX13p (io), R25 IO, CLK0n/DIFFIO_RX_C0n (io), R26 IO, CLK0p/DIFFIO_RX_C0p (io), R28 IO, DIFFIO_RX14p (io), T26 IO, DIFFIO_RX13n (io), T27 IO, DIFFIO_RX13p (io), T28 IO, DIFFIO_RX14n (io)
part C pins: A17 IO, CLK14p (io), A18 IO, DQ11T, DQ2T/DQ1T (io), A19 IO, DQS11T, DQS2T/_ (io), A20 IO, DQ11T, DQ2T/DQ1T (io), A21 IO, DQ13T, DQ2T/DQ1T (io), A22 IO, DQ13T, DQ2T/DQ1T (io), A23 IO, DQ15T, DQ3T/DQ1T (io), A24 IO, DQ15T, DQ3T/DQ1T (io), A25 IO, DQ17T, DQ3T/DQ1T (io), A26 IO, DQ17T, DQ3T/DQ1T (io), B17 IO, CLK14n (io), B19 IO, _/DQ1T (io), B20 IO, DQS13T, _/DQS1T (io), B22 IO, DQ13T, DQ2T/DQ1T (io), B23 IO, DQS15T, DQS3T/_ (io), B25 IO, DQS17T (io), B26 IO, DQ17T, DQ3T/_ (io), C16 IO, CLK15p (io), C18 IO, DQ11T, DQ2T/DQ1T (io), C19 IO, DQ11T, DQ2T/DQ1T (io), C20 IO, DQ2T/_ (io), C21 IO, DQ13T, DQ2T/DQ1T (io), C22 IO, DQ15T, DQ3T/DQ1T (io), C23 IO, _/DQ1T (io), C24 IO, DQ15T, DQ3T/DQ1T (io), C25 IO, DQ3T/DQ1T (io), C26 IO, DQ17T, DQ3T/DQ1T (io), D16 IO, CLK15n (io), D17 IO (nCSO) (io), D18 IO (io), D20 IO (io), D21 IO (DATA3) (io), D22 IO (DATA7) (io), D23 IO (DATA5) (io), E16 IO (PGM2) (io), E17 IO (CRC_ERROR) (io), F16 IO (PGM1) (io), F17 IO (DATA0) (io), F20 IO (io), F21 IO (DATA2) (io), F22 IO (DATA6) (io), G16 IO (PGM0) (io), G17 IO (io), G18 IO (io), G19 IO (io), G21 IO (DATA4) (io), G22 IO (INIT_DONE) (io), H19 IO (io), J18 IO (io), J21 IO (RDYnBSY) (io), K17 IO (DATA1) (io), K18 IO (io), K19 IO (io), K20 IO (io), L16 IO (ASDO) (io), L17 IO (io), L19 IO (io), L20 IO (io)
part D pins: A7 IO, DQ1T (io), A8 IO, DQ1T (io), A9 IO, DQ3T, DQ0T/DQ0T (io), A10 IO, DQ5T, DQ0T/DQ0T (io), A11 IO, DQ7T, DQ1T/DQ0T (io), A12 IO, DQ7T, DQ1T/DQ0T (io), A13 IO, DQ9T, DQ1T/DQ0T (io), A16 IO, CLK12p (io), B8 IO (io), B10 IO, DQ3T, DQ0T/DQ0T (io), B11 IO, DQ0T/_ (io), B13 IO, DQ9T, DQ1T/DQ0T (io), B14 IO, DQS9T (io), B16 IO, CLK12n (io), C7 IO, RUP4 (io), C8 IO, DQS1T (io), C9 IO, DQ3T, DQ0T/DQ0T (io), C10 IO, _/DQ0T (io), C11 IO, DQS5T, _/DQS0T (io), C12 IO, DQ5T, DQ0T/DQ0T (io), C13 IO, _/DQ0T (io), C14 IO, DQ1T/DQ0T (io), D7 IO, RDN4 (io), D8 IO, DQ1T (io), D9 IO, DQ1T (io), D10 IO, DQS3T, DQS0T/_ (io), D11 IO, DQ5T, DQ0T/DQ0T (io), D12 IO, DQ5T, DQ0T/DQ0T (io), D13 IO, DQS7T, DQS1T/_ (io), D14 IO, DQ9T, DQ1T/_ (io), E10 IO (io), E11 IO, DQ3T, DQ0T/DQ0T (io), E13 IO, DQ7T, DQ1T/DQ0T (io), E14 IO, DQ9T, DQ1T/DQ0T (io), F13 IO, DQ7T, DQ1T/DQ0T (io), F15 IO, CLK13p (io), G9 IO (io), G10 IO (io), G12 IO (io), G13 IO (io), G15 IO, CLK13n (io), H11 IO (io), H13 IO (io), J10 IO (io), J11 IO (io), K10 IO (io), K11 IO (io), K12 IO (io), K13 IO (io), L12 IO (io), L13 IO (io)
part E pins: AA11 IO (io), AB8 IO, RUP7 (io), AB9 IO (io), AB10 IO (io), AB11 IO (io), AB12 IO (io), AB13 IO (io), AC8 IO, RDN7 (io), AC9 IO (io), AC11 IO (io), AC12 IO (io), AC13 IO, DQ9B, DQ1B/DQ0B (io), AC14 IO, DQ9B, DQ1B/DQ0B (io), AD10 IO, DQ3B, DQ0B/DQ0B (io), AD11 IO, DQ5B, DQ0B/DQ0B (io), AD13 IO, DQ9B, DQ1B/DQ0B (io), AE7 IO, DQ1B (io), AE8 IO, DQ1B (io), AE9 IO, DQS3B, DQS0B/_ (io), AE10 IO, DQ3B, DQ0B/DQ0B (io), AE11 IO, DQS5B, _/DQS0B (io), AE12 IO, DQS7B, DQS1B/_ (io), AE13 IO, DQ1B/DQ0B (io), AE15 IO, CLK7n (io), AF7 IO, DQ1B (io), AF8 IO, DQS1B (io), AF9 IO, _/DQ0B (io), AF10 IO, DQ5B, DQ0B/DQ0B (io), AF11 IO, DQ0B/_ (io), AF12 IO, _/DQ0B (io), AF13 IO, DQS9B (io), AF15 IO, CLK7p (io), AG8 IO (io), AG10 IO, DQ5B, DQ0B/DQ0B (io), AG11 IO, DQ7B, DQ1B/DQ0B (io), AG13 IO, DQ9B, DQ1B/_ (io), AG16 IO, CLK6n (io), AH7 IO, DQ1B (io), AH8 IO, DQ3B, DQ0B/DQ0B (io), AH9 IO, DQ3B, DQ0B/DQ0B (io), AH10 IO, DQ5B, DQ0B/DQ0B (io), AH11 IO, DQ7B, DQ1B/DQ0B (io), AH12 IO, DQ7B, DQ1B/DQ0B (io), AH13 IO, DQ7B, DQ1B/DQ0B (io), AH16 IO, CLK6p (io), V11 IO (io), W9 IO (io), Y10 IO (io), Y13 IO (io)
part F pins: AA17 IO (io), AA19 IO (io), AB15 IO, CLK5n (io), AB17 IO (io), AB18 IO (io), AB19 IO (io), AB20 IO (io), AC15 IO, CLK5p (io), AC16 IO (RUnLU) (io), AC17 IO (io), AC19 IO (io), AC21 IO (CLKUSR) (io), AD16 IO (DEV_OE) (io), AD20 IO (io), AE17 IO (DEV_CLRn) (io), AE19 IO (io), AE21 IO (nRS) (io), AE22 IO (nWS) (io), AE23 IO (io), AE24 IO (CS) (io), AF17 IO (nCS) (io), AF18 IO, DQ11B, DQ2B/DQ1B (io), AF19 IO, DQ11B, DQ2B/DQ1B (io), AF20 IO, DQ2B/_ (io), AF21 IO, DQ13B, DQ2B/DQ1B (io), AF22 IO, DQ15B, DQ3B/DQ1B (io), AF23 IO, _/DQ1B (io), AF24 IO, DQ15B, DQ3B/DQ1B (io), AF25 IO, DQ3B/DQ1B (io), AF26 IO, DQ17B, DQ3B/_ (io), AG17 IO, CLK4n (io), AG19 IO, _/DQ1B (io), AG20 IO, DQS13B, _/DQS1B (io), AG22 IO, DQ13B, DQ2B/DQ1B (io), AG23 IO, DQS15B, DQS3B/_ (io), AG25 IO, DQS17B (io), AG26 IO, DQ17B, DQ3B/DQ1B (io), AH17 IO, CLK4p (io), AH18 IO, DQ11B, DQ2B/DQ1B (io), AH19 IO, DQS11B, DQS2B/_ (io), AH20 IO, DQ11B, DQ2B/DQ1B (io), AH21 IO, DQ13B, DQ2B/DQ1B (io), AH22 IO, DQ13B, DQ2B/DQ1B (io), AH23 IO, DQ15B, DQ3B/DQ1B (io), AH24 IO, DQ15B, DQ3B/DQ1B (io), AH25 IO, DQ17B, DQ3B/DQ1B (io), AH26 IO, DQ17B, DQ3B/DQ1B (io), W15 IO (io), W16 IO (io), Y15 IO (io), Y17 IO (io)
part G pins: A14 IO, PLL5_OUT0n (io), A15 IO, PLL5_OUT0p (io), C15 IO, PLL5_OUT1p (io), D15 IO, PLL5_OUT1n (io), F14 IO, PLL5_FBp/OUT2p (io), G14 IO, PLL5_FBn/OUT2n (io)
part H pins: AD14 IO, PLL6_FBn/OUT2n (io), AE14 IO, PLL6_FBp/OUT2p (io), AF14 IO, PLL6_OUT1n (io), AG14 IO, PLL6_OUT1p (io), AH14 IO, PLL6_OUT0n (io), AH15 IO, PLL6_OUT0p (io)
part I pins: C4 GXB_TX1p (out), C5 GXB_TX1n (out), E1 GXB_RX1p (in), E2 GXB_RX1n (in), E4 GXB_TX0p (out), E5 GXB_TX0n (out), G1 GXB_RX0p (in), G2 GXB_RX0n (in), G4 REFCLK1_B13p (in), G5 REFCLK1_B13n (in), J1 REFCLK0_B13p (in), J2 REFCLK0_B13n (in), J4 RREFB13 (in), L1 GXB_RX2p (in), L2 GXB_RX2n (in), L4 GXB_TX2p (out), L5 GXB_TX2n (out), N1 GXB_RX3p (in), N2 GXB_RX3n (in), N4 GXB_TX3p (out), N5 GXB_TX3n (out)
part J pins: T24 CLK1n, INPUT (in), T25 CLK1p, INPUT (in), U25 CLK3n, INPUT (in), U26 CLK3p, INPUT (in)
part K pins: AB14 VREFB7N0 (in), AC10 VREFB7N1 (in), AD17 VREFB8N1 (in), AD19 VREFB8N0 (in), E19 VREFB3N0 (in), E20 VREFB3N1 (in), F10 VREFB4N0 (in), F12 VREFB4N1 (in), M23 VREFB2N1 (in), T21 VREFB2N0 (in), W23 VREFB1N1 (in), Y23 VREFB1N0 (in)
part L pins: AA8 PLL_ENA (in), AB7 nCEO (out), D24 nCE (in), D25 DCLK (io), D26 nSTATUS (io), E8 MSEL1 (in), E23 CONF_DONE (io), F7 TEMPDIODEp (in), F8 TDO (out), G7 TEMPDIODEn (in), G8 MSEL3 (in), H8 MSEL2 (in), J8 MSEL0 (in), V16 nCONFIG (in), V17 TCK (in), V19 TDI (in), W17 TRST (in), W18 VCCSEL (in), W19 TMS (in), Y7 nIO_PULLUP (in), Y8 PORSEL (in)
part M pins: AA10 VCCIO7 (power), AA13 VCCIO7 (power), AA16 VCCIO8 (power), H14 VCCIO4 (power), H17 VCCIO3 (power), H20 VCCIO3 (power), J9 VCCIO4 (power), J12 VCCIO4 (power), J13 VCCPD4 (power), J17 VCCPD3 (power), J19 VCCIO3 (power), J22 VCCIO2 (power), L22 VCCIO2 (power), M12 VCCINT (power), M14 VCCINT (power), M16 VCCINT (power), M18 VCCINT (power), N11 VCCINT (power), N13 VCCINT (power), N15 VCCINT (power), N17 VCCINT (power), N21 VCCIO2 (power), P12 VCCINT (power), P14 VCCINT (power), P16 VCCINT (power), P18 VCCINT (power), P20 VCCPD2 (power), R11 VCCINT (power), R13 VCCINT (power), R15 VCCINT (power), R17 VCCINT (power), T12 VCCINT (power), T14 VCCINT (power), T16 VCCINT (power), T18 VCCINT (power), T20 VCCPD1 (power), U11 VCCINT (power), U13 VCCINT (power), U15 VCCINT (power), U17 VCCINT (power), U22 VCCIO1 (power), V21 VCCIO1 (power), Y9 VCCIO7 (power), Y12 VCCPD7 (power), Y16 VCCPD8 (power), Y18 VCCIO8 (power), Y19 VCCIO8 (power), Y22 VCCIO1 (power)
part N pins: K9 VCCA (power), L6 VCCA (power), L7 VCCR (power), L8 VCCT_B13 (power), L9 VCCH_B13 (power), L10 VCCP (power), M6 VCCA (power), M7 VCCR (power), M8 VCCT_B13 (power), M9 VCCH_B13 (power), M10 VCCP (power), N6 VCCL_B13 (power), P7 VCCA (power), P9 VCCA (power), R6 VCCA (power), R7 VCCR (power), R8 VCCT_B13 (power), R9 VCCH_B13 (power), R10 VCCP (power), T6 VCCA (power), T7 VCCR (power), T8 VCCT_B13 (power), T9 VCCH_B13 (power), T10 VCCP (power), U6 VCCL_B13 (power), V7 VCCA (power), V9 VCCA (power)
part O pins: AA14 VCC_PLL6_OUT (power), J14 VCC_PLL5_OUT (power), J15 VCCA_PLL5 (power), J16 GNDA_PLL5 (power), K15 GNDA_PLL5 (power), K16 VCCD_PLL5 (power), N22 VCCD_PLL1 (power), N23 VCCA_PLL1 (power), P22 GNDA_PLL1 (power), P23 GNDA_PLL1 (power), R22 GNDA_PLL2 (power), R23 GNDA_PLL2 (power), T22 VCCD_PLL2 (power), T23 VCCA_PLL2 (power), V14 VCCD_PLL6 (power), W13 GNDA_PLL6 (power), W14 GNDA_PLL6 (power), Y14 VCCA_PLL6 (power)
part P pins: A2 GND (power), A3 GND (power), A4 GND (power), A5 GND (power), A6 GND (power), A27 GND (power), AA1 GND (power), AA2 GND (power), AA3 GND (power), AA4 GND (power), AA5 GND (power), AA6 GND (power), AA7 GND (power), AA9 GND (power), AA12 GND (power), AA15 GND (power), AA18 GND (power), AA20 GND (power), AA21 GND (power), AA24 GND (power), AA27 GND (power), AB1 GND* (power), AB2 GND* (power), AB3 GND (power), AB4 GND* (power), AB5 GND* (power), AB6 GND (power), AC1 GND (power), AC2 GND (power), AC3 GND (power), AC4 GND (power), AC5 GND (power), AC6 GND (power), AC7 GND (power), AD1 GND* (power), AD2 GND* (power), AD3 GND (power), AD4 GND* (power), AD5 GND* (power), AD6 GND (power), AD7 GND (power), AD9 GND (power), AD12 GND (power), AD15 GND (power), AD18 GND (power), AD21 GND (power), AD24 GND (power), AD27 GND (power), AE1 GND (power), AE2 GND (power), AE3 GND (power), AE4 GND (power), AE5 GND (power), AE6 GND (power), AF1 GND (power), AF2 GND (power), AF3 GND (power), AF4 GND* (power), AF5 GND* (power), AF6 GND (power), AG1 GND (power), AG2 GND (power), AG3 GND (power), AG4 GND (power), AG5 GND (power), AG6 GND (power), AG7 GND (power), AG9 GND (power), AG12 GND (power), AG15 GND (power), AG18 GND (power), AG21 GND (power), AG24 GND (power), AG27 GND (power), AG28 GND (power), AH2 GND (power), AH3 GND (power), AH4 GND (power), AH5 GND (power), AH6 GND (power), AH27 GND (power), B1 GND (power), B2 GND (power), B3 GND (power), B4 GND (power), B5 GND (power), B6 GND (power), B7 GND (power), B9 GND (power), B12 GND (power), B15 GND (power), B18 GND (power), B21 GND (power), B24 GND (power), B27 GND (power), B28 GND (power), C1 GND (power), C2 GND (power), C3 GND (power), C6 GND (power), D1 GND (power), D2 GND (power), D3 GND (power), D4 GND (power), D5 GND (power), D6 GND (power), E3 GND (power), E6 GND (power), E7 GND (power), E9 GND (power), E12 GND (power), E15 GND (power), E18 GND (power), E21 GND (power), E24 GND (power), E27 GND (power), F1 GND (power), F2 GND (power), F3 GND (power), F4 GND (power), F5 GND (power), F6 GND (power), G3 GND (power), G6 GND (power), H1 GND (power), H2 GND (power), H3 GND (power), H4 GND (power), H5 GND (power), H6 GND (power), H7 GND (power), H9 GND (power), H12 GND (power), H15 GND (power), H16 GND (power), H18 GND (power), H21 GND (power), H24 GND (power), H27 GND (power), J3 GND (power), J5 GND (power), J6 GND (power), J7 GND (power), K1 GND (power), K2 GND (power), K3 GND (power), K4 GND (power), K5 GND (power), K6 GND (power), L3 GND (power), L11 GND (power), L15 GND (power), L18 GND (power), L21 GND (power), L24 GND (power), L27 GND (power), M1 GND (power), M2 GND (power), M3 GND (power), M4 GND (power), M5 GND (power), M11 GND (power), M13 GND (power), M15 GND (power), M17 GND (power), M19 GND (power), N3 GND (power), N7 GND (power), N8 GND (power), N9 GND (power), N10 GND (power), N12 GND (power), N14 GND (power), N16 GND (power), N18 GND (power), N19 GND (power), N24 GND (power), N27 GND (power), P1 GND (power), P2 GND (power), P3 GND (power), P4 GND (power), P5 GND (power), P6 GND (power), P8 GND (power), P10 GND (power), P11 GND (power), P13 GND (power), P15 GND (power), P17 GND (power), P19 GND (power), P21 GND (power), R1 GND (power), R2 GND (power), R3 GND (power), R4 GND (power), R5 GND (power), R12 GND (power), R14 GND (power), R16 GND (power), R18 GND (power), R19 GND (power), R24 GND (power), R27 GND (power), T1 GND* (power), T2 GND* (power), T3 GND (power), T4 GND* (power), T5 GND* (power), T11 GND (power), T13 GND (power), T15 GND (power), T17 GND (power), U1 GND (power), U2 GND (power), U3 GND (power), U4 GND (power), U5 GND (power), U7 GND (power), U8 GND (power), U9 GND (power), U10 GND (power), U12 GND (power), U14 GND (power), U16 GND (power), U18 GND (power), U21 GND (power), V1 GND* (power), V2 GND* (power), V3 GND (power), V4 GND* (power), V5 GND* (power), V6 GND (power), V8 GND (power), V10 GND (power), V12 GND (power), V15 GND (power), V18 GND (power), V24 GND (power), V27 GND (power), W1 GND (power), W2 GND (power), W3 GND (power), W4 GND (power), W5 GND (power), W6 GND (power), W7 GND (power), W8 GND (power), W20 GND (power), W22 GND (power), Y1 GND* (power), Y2 GND* (power), Y3 GND (power), Y4 GND* (power), Y5 GND (power), Y6 GND (power), Y20 GND (power)
part Q pins: AB16 NC, AC18 NC, AC20 NC, AD8 NC, AD22 NC, AD23 NC, AE16 NC, AE18 NC, AE20 NC, AF16 NC, C17 NC, D19 NC, E22 NC, F9 NC, F11 NC, F18 NC, F19 NC, F25 NC, G11 NC, G20 NC, H10 NC, J20 NC, K7 NC, K8 NC, K14 NC, L14 NC, V13 NC, W10 NC, W11 NC, W12 NC, Y11 NC
part A text: BANK 1
part B text: BANK 2
part C text: BANK 3
part D text: BANK 4
part E text: BANK 7
part F text: BANK 8
part G text: BANK 9
part H text: BANK 10
part I text: BANK 13

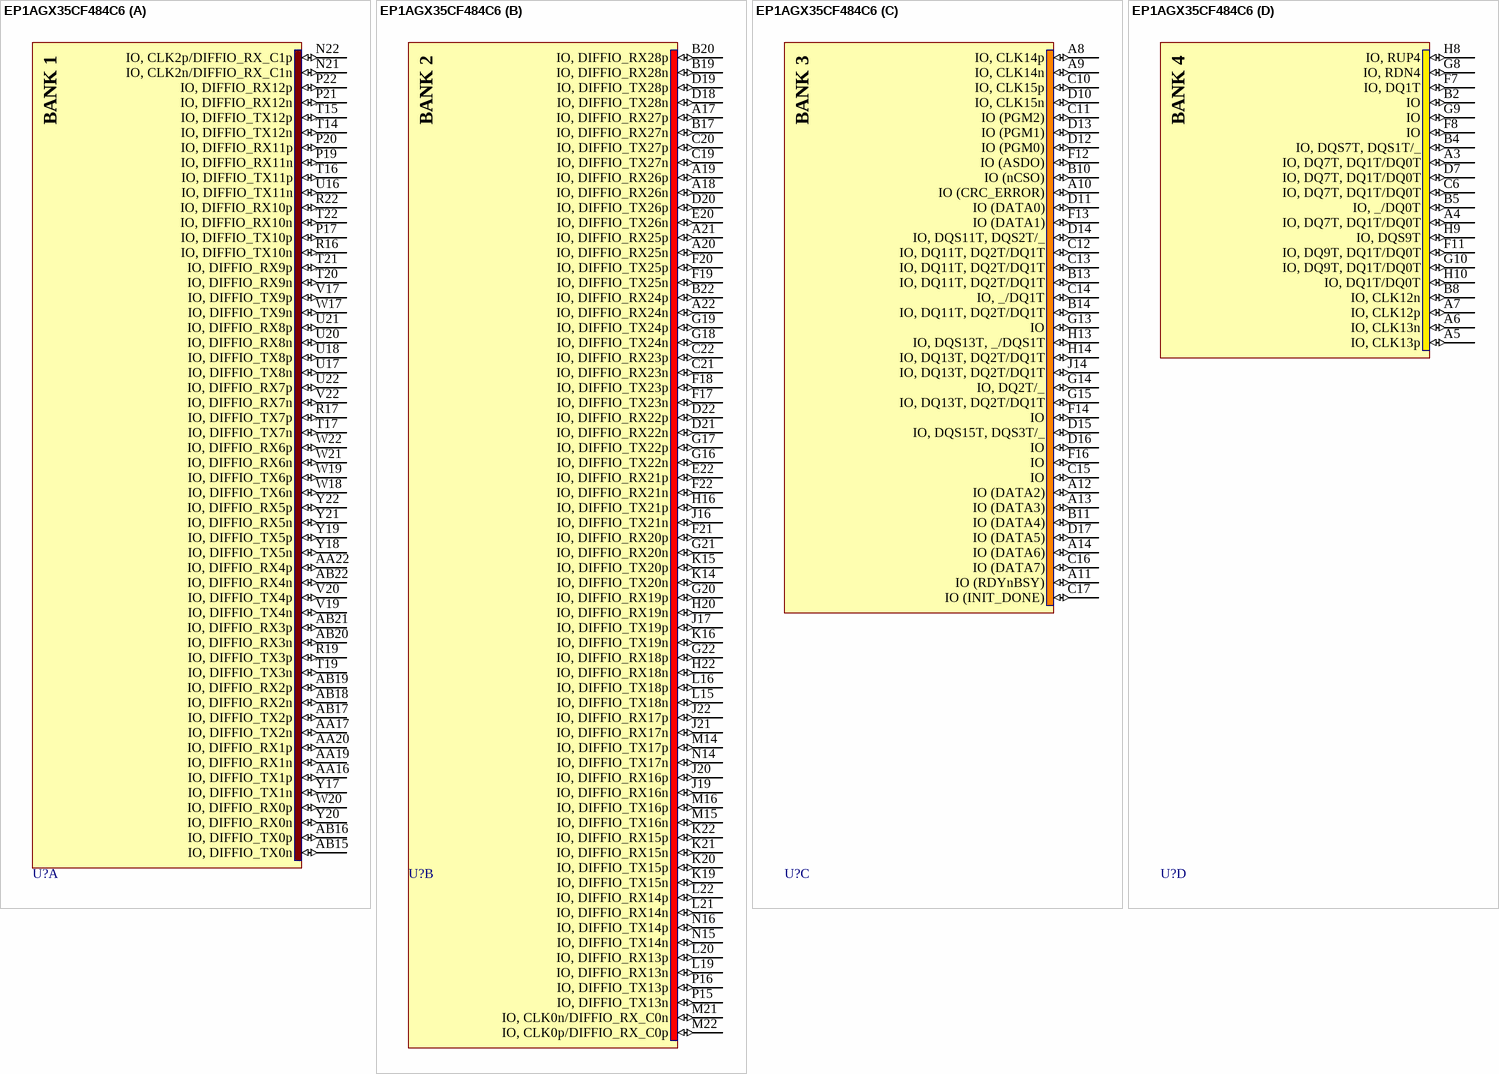
[diagram p24: symbol EP1AGX35CF484C6]

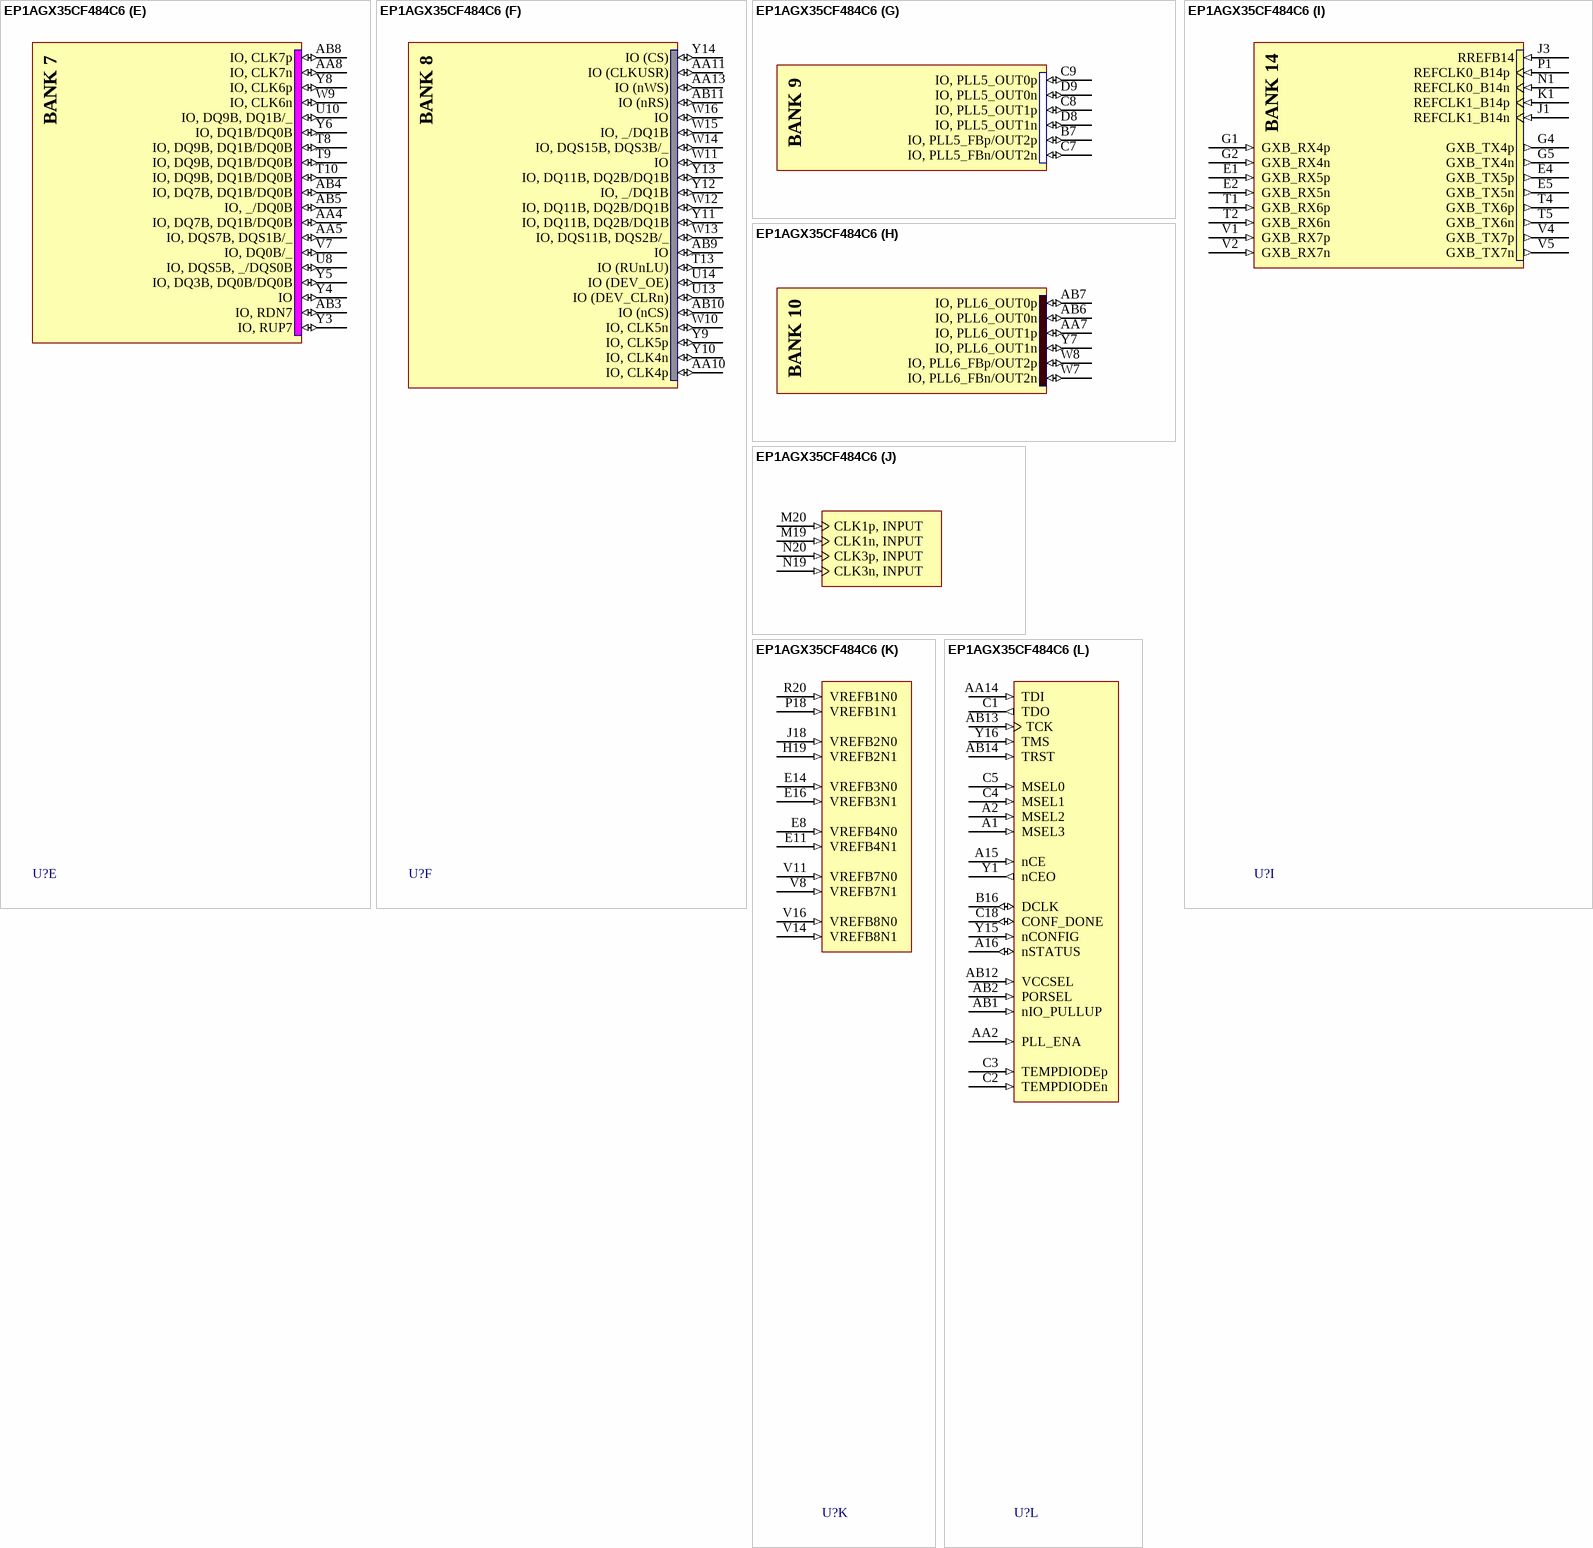
[diagram p25: symbol EP1AGX35CF484C6]

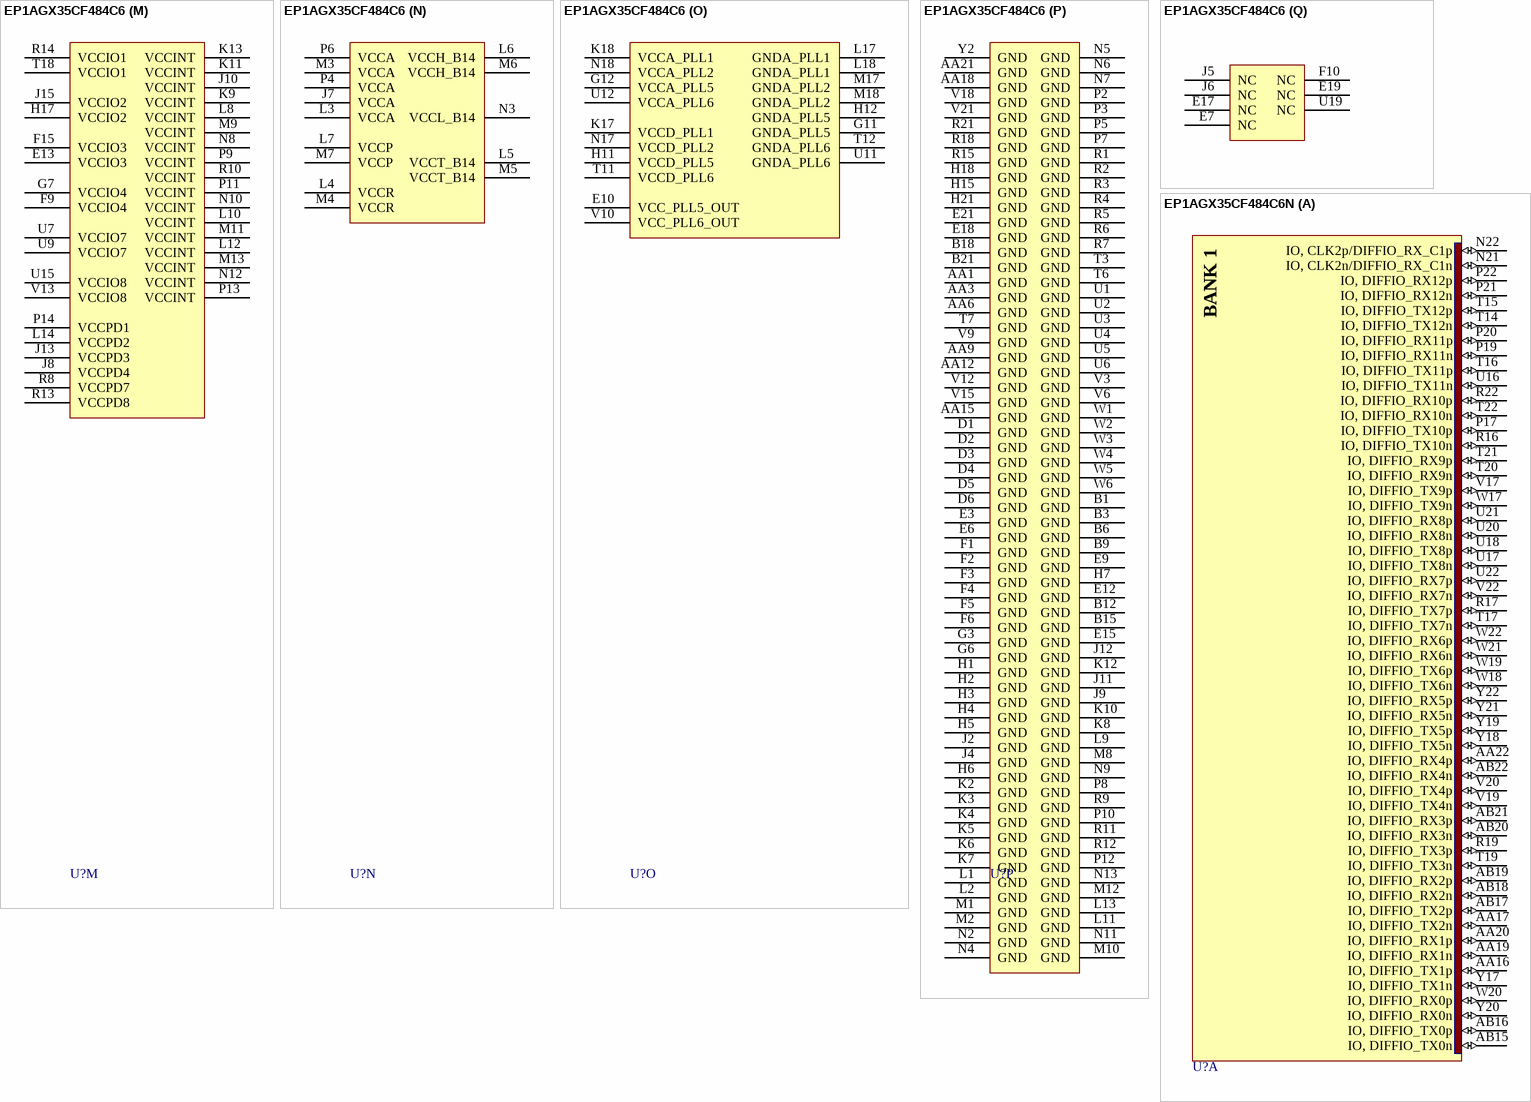
[diagram p26: symbols EP1AGX35CF484C6 to EP1AGX35CF484C6N]

## EP1AGX35CF484C6
designator U?
Arria GX Family FPGA, 255 I/O Pins, 4 PLLs, 484-Pin FPGA, Speed Grade 6, Commercial Grade; Note: DQS signal pins named according to DQ bus modes.  "/" separates each mode. ie. Modes x8/x9 / Modes x16/x18.; DatasheetVersion: ver1.3, May-2008; PackageVersion: ver16.0, Dec-2009; PackageReference: FBGA484; PackageDescription: 484-Ball FineLine Ball Grid Array (FBGA484) - Flip Chip; Code_JEDEC: MS-034-AAJ-1; Code_IPC: BGA100P22X22-484; ComponentLink1Description: Manufacturer URL; ComponentLink1URL: http://www.altera.com/; ComponentLink2Description: Datasheet; ComponentLink2URL: http://www.altera.com/literature/hb/agx/arriagx_handbook.pdf; ComponentLink3Description: Package Specification; ComponentLink3URL: http://www.altera.com/literature/ds/dspkg.pdf
footprint FBGA484 (BGA, 484-Leads, Body 23x23mm, Pitch 1mm)
part A pins: AA16 IO, DIFFIO_TX1p (io), AA17 IO, DIFFIO_TX2n (io), AA19 IO, DIFFIO_RX1n (io), AA20 IO, DIFFIO_RX1p (io), AA22 IO, DIFFIO_RX4p (io), AB15 IO, DIFFIO_TX0n (io), AB16 IO, DIFFIO_TX0p (io), AB17 IO, DIFFIO_TX2p (io), AB18 IO, DIFFIO_RX2n (io), AB19 IO, DIFFIO_RX2p (io), AB20 IO, DIFFIO_RX3n (io), AB21 IO, DIFFIO_RX3p (io), AB22 IO, DIFFIO_RX4n (io), N21 IO, CLK2n/DIFFIO_RX_C1n (io), N22 IO, CLK2p/DIFFIO_RX_C1p (io), P17 IO, DIFFIO_TX10p (io), P19 IO, DIFFIO_RX11n (io), P20 IO, DIFFIO_RX11p (io), P21 IO, DIFFIO_RX12n (io), P22 IO, DIFFIO_RX12p (io), R16 IO, DIFFIO_TX10n (io), R17 IO, DIFFIO_TX7p (io), R19 IO, DIFFIO_TX3p (io), R22 IO, DIFFIO_RX10p (io), T14 IO, DIFFIO_TX12n (io), T15 IO, DIFFIO_TX12p (io), T16 IO, DIFFIO_TX11p (io), T17 IO, DIFFIO_TX7n (io), T19 IO, DIFFIO_TX3n (io), T20 IO, DIFFIO_RX9n (io), T21 IO, DIFFIO_RX9p (io), T22 IO, DIFFIO_RX10n (io), U16 IO, DIFFIO_TX11n (io), U17 IO, DIFFIO_TX8n (io), U18 IO, DIFFIO_TX8p (io), U20 IO, DIFFIO_RX8n (io), U21 IO, DIFFIO_RX8p (io), U22 IO, DIFFIO_RX7p (io), V17 IO, DIFFIO_TX9p (io), V19 IO, DIFFIO_TX4n (io), V20 IO, DIFFIO_TX4p (io), V22 IO, DIFFIO_RX7n (io), W17 IO, DIFFIO_TX9n (io), W18 IO, DIFFIO_TX6n (io), W19 IO, DIFFIO_TX6p (io), W20 IO, DIFFIO_RX0p (io), W21 IO, DIFFIO_RX6n (io), W22 IO, DIFFIO_RX6p (io), Y17 IO, DIFFIO_TX1n (io), Y18 IO, DIFFIO_TX5n (io), Y19 IO, DIFFIO_TX5p (io), Y20 IO, DIFFIO_RX0n (io), Y21 IO, DIFFIO_RX5n (io), Y22 IO, DIFFIO_RX5p (io)
part B pins: A17 IO, DIFFIO_RX27p (io), A18 IO, DIFFIO_RX26n (io), A19 IO, DIFFIO_RX26p (io), A20 IO, DIFFIO_RX25n (io), A21 IO, DIFFIO_RX25p (io), A22 IO, DIFFIO_RX24n (io), B17 IO, DIFFIO_RX27n (io), B19 IO, DIFFIO_RX28n (io), B20 IO, DIFFIO_RX28p (io), B22 IO, DIFFIO_RX24p (io), C19 IO, DIFFIO_TX27n (io), C20 IO, DIFFIO_TX27p (io), C21 IO, DIFFIO_RX23n (io), C22 IO, DIFFIO_RX23p (io), D18 IO, DIFFIO_TX28n (io), D19 IO, DIFFIO_TX28p (io), D20 IO, DIFFIO_TX26p (io), D21 IO, DIFFIO_RX22n (io), D22 IO, DIFFIO_RX22p (io), E20 IO, DIFFIO_TX26n (io), E22 IO, DIFFIO_RX21p (io), F17 IO, DIFFIO_TX23n (io), F18 IO, DIFFIO_TX23p (io), F19 IO, DIFFIO_TX25n (io), F20 IO, DIFFIO_TX25p (io), F21 IO, DIFFIO_RX20p (io), F22 IO, DIFFIO_RX21n (io), G16 IO, DIFFIO_TX22n (io), G17 IO, DIFFIO_TX22p (io), G18 IO, DIFFIO_TX24n (io), G19 IO, DIFFIO_TX24p (io), G20 IO, DIFFIO_RX19p (io), G21 IO, DIFFIO_RX20n (io), G22 IO, DIFFIO_RX18p (io), H16 IO, DIFFIO_TX21p (io), H20 IO, DIFFIO_RX19n (io), H22 IO, DIFFIO_RX18n (io), J16 IO, DIFFIO_TX21n (io), J17 IO, DIFFIO_TX19p (io), J19 IO, DIFFIO_RX16n (io), J20 IO, DIFFIO_RX16p (io), J21 IO, DIFFIO_RX17n (io), J22 IO, DIFFIO_RX17p (io), K14 IO, DIFFIO_TX20n (io), K15 IO, DIFFIO_TX20p (io), K16 IO, DIFFIO_TX19n (io), K19 IO, DIFFIO_TX15n (io), K20 IO, DIFFIO_TX15p (io), K21 IO, DIFFIO_RX15n (io), K22 IO, DIFFIO_RX15p (io), L15 IO, DIFFIO_TX18n (io), L16 IO, DIFFIO_TX18p (io), L19 IO, DIFFIO_RX13n (io), L20 IO, DIFFIO_RX13p (io), L21 IO, DIFFIO_RX14n (io), L22 IO, DIFFIO_RX14p (io), M14 IO, DIFFIO_TX17p (io), M15 IO, DIFFIO_TX16n (io), M16 IO, DIFFIO_TX16p (io), M21 IO, CLK0n/DIFFIO_RX_C0n (io), M22 IO, CLK0p/DIFFIO_RX_C0p (io), N14 IO, DIFFIO_TX17n (io), N15 IO, DIFFIO_TX14n (io), N16 IO, DIFFIO_TX14p (io), P15 IO, DIFFIO_TX13n (io), P16 IO, DIFFIO_TX13p (io)
part C pins: A8 IO, CLK14p (io), A9 IO, CLK14n (io), A10 IO (CRC_ERROR) (io), A11 IO (RDYnBSY) (io), A12 IO (DATA2) (io), A13 IO (DATA3) (io), A14 IO (DATA6) (io), B10 IO (nCSO) (io), B11 IO (DATA4) (io), B13 IO, DQ11T, DQ2T/DQ1T (io), B14 IO, DQ11T, DQ2T/DQ1T (io), C10 IO, CLK15p (io), C11 IO (PGM2) (io), C12 IO, DQ11T, DQ2T/DQ1T (io), C13 IO, DQ11T, DQ2T/DQ1T (io), C14 IO, _/DQ1T (io), C15 IO (io), C16 IO (DATA7) (io), C17 IO (INIT_DONE) (io), D10 IO, CLK15n (io), D11 IO (DATA0) (io), D12 IO (PGM0) (io), D13 IO (PGM1) (io), D14 IO, DQS11T, DQS2T/_ (io), D15 IO, DQS15T, DQS3T/_ (io), D16 IO (io), D17 IO (DATA5) (io), F12 IO (ASDO) (io), F13 IO (DATA1) (io), F14 IO (io), F16 IO (io), G13 IO (io), G14 IO, DQ2T/_ (io), G15 IO, DQ13T, DQ2T/DQ1T (io), H13 IO, DQS13T, _/DQS1T (io), H14 IO, DQ13T, DQ2T/DQ1T (io), J14 IO, DQ13T, DQ2T/DQ1T (io)
part D pins: A3 IO, DQ7T, DQ1T/DQ0T (io), A4 IO, DQ7T, DQ1T/DQ0T (io), A5 IO, CLK13p (io), A6 IO, CLK13n (io), A7 IO, CLK12p (io), B2 IO (io), B4 IO, DQS7T, DQS1T/_ (io), B5 IO, _/DQ0T (io), B8 IO, CLK12n (io), C6 IO, DQ7T, DQ1T/DQ0T (io), D7 IO, DQ7T, DQ1T/DQ0T (io), F7 IO, DQ1T (io), F8 IO (io), F11 IO, DQ9T, DQ1T/DQ0T (io), G8 IO, RDN4 (io), G9 IO (io), G10 IO, DQ9T, DQ1T/DQ0T (io), H8 IO, RUP4 (io), H9 IO, DQS9T (io), H10 IO, DQ1T/DQ0T (io)
part E pins: AA4 IO, DQ7B, DQ1B/DQ0B (io), AA5 IO, DQS7B, DQS1B/_ (io), AA8 IO, CLK7n (io), AB3 IO, RDN7 (io), AB4 IO, DQ7B, DQ1B/DQ0B (io), AB5 IO, _/DQ0B (io), AB8 IO, CLK7p (io), T8 IO, DQ9B, DQ1B/DQ0B (io), T9 IO, DQ9B, DQ1B/DQ0B (io), T10 IO, DQ9B, DQ1B/DQ0B (io), U8 IO, DQS5B, _/DQS0B (io), U10 IO, DQ9B, DQ1B/_ (io), V7 IO, DQ0B/_ (io), W9 IO, CLK6n (io), Y3 IO, RUP7 (io), Y4 IO (io), Y5 IO, DQ3B, DQ0B/DQ0B (io), Y6 IO, DQ1B/DQ0B (io), Y8 IO, CLK6p (io)
part F pins: AA10 IO, CLK4p (io), AA11 IO (CLKUSR) (io), AA13 IO (nWS) (io), AB9 IO (io), AB10 IO (nCS) (io), AB11 IO (nRS) (io), T13 IO (RUnLU) (io), U13 IO (DEV_CLRn) (io), U14 IO (DEV_OE) (io), W10 IO, CLK5n (io), W11 IO (io), W12 IO, DQ11B, DQ2B/DQ1B (io), W13 IO, DQS11B, DQS2B/_ (io), W14 IO, DQS15B, DQS3B/_ (io), W15 IO, _/DQ1B (io), W16 IO (io), Y9 IO, CLK5p (io), Y10 IO, CLK4n (io), Y11 IO, DQ11B, DQ2B/DQ1B (io), Y12 IO, _/DQ1B (io), Y13 IO, DQ11B, DQ2B/DQ1B (io), Y14 IO (CS) (io)
part G pins: B7 IO, PLL5_FBp/OUT2p (io), C7 IO, PLL5_FBn/OUT2n (io), C8 IO, PLL5_OUT1p (io), C9 IO, PLL5_OUT0p (io), D8 IO, PLL5_OUT1n (io), D9 IO, PLL5_OUT0n (io)
part H pins: AA7 IO, PLL6_OUT1p (io), AB6 IO, PLL6_OUT0n (io), AB7 IO, PLL6_OUT0p (io), W7 IO, PLL6_FBn/OUT2n (io), W8 IO, PLL6_FBp/OUT2p (io), Y7 IO, PLL6_OUT1n (io)
part I pins: E1 GXB_RX5p (in), E2 GXB_RX5n (in), E4 GXB_TX5p (out), E5 GXB_TX5n (out), G1 GXB_RX4p (in), G2 GXB_RX4n (in), G4 GXB_TX4p (out), G5 GXB_TX4n (out), J1 REFCLK1_B14n (in), J3 RREFB14 (in), K1 REFCLK1_B14p (in), N1 REFCLK0_B14n (in), P1 REFCLK0_B14p (in), T1 GXB_RX6p (in), T2 GXB_RX6n (in), T4 GXB_TX6p (out), T5 GXB_TX6n (out), V1 GXB_RX7p (in), V2 GXB_RX7n (in), V4 GXB_TX7p (out), V5 GXB_TX7n (out)
part J pins: M19 CLK1n, INPUT (in), M20 CLK1p, INPUT (in), N19 CLK3n, INPUT (in), N20 CLK3p, INPUT (in)
part K pins: E8 VREFB4N0 (in), E11 VREFB4N1 (in), E14 VREFB3N0 (in), E16 VREFB3N1 (in), H19 VREFB2N1 (in), J18 VREFB2N0 (in), P18 VREFB1N1 (in), R20 VREFB1N0 (in), V8 VREFB7N1 (in), V11 VREFB7N0 (in), V14 VREFB8N1 (in), V16 VREFB8N0 (in)
part L pins: A1 MSEL3 (in), A2 MSEL2 (in), A15 nCE (in), A16 nSTATUS (io), AA2 PLL_ENA (in), AA14 TDI (in), AB1 nIO_PULLUP (in), AB2 PORSEL (in), AB12 VCCSEL (in), AB13 TCK (in), AB14 TRST (in), B16 DCLK (io), C1 TDO (out), C2 TEMPDIODEn (in), C3 TEMPDIODEp (in), C4 MSEL1 (in), C5 MSEL0 (in), C18 CONF_DONE (io), Y1 nCEO (out), Y15 nCONFIG (in), Y16 TMS (in)
part M pins: E13 VCCIO3 (power), F9 VCCIO4 (power), F15 VCCIO3 (power), G7 VCCIO4 (power), H17 VCCIO2 (power), J8 VCCPD4 (power), J10 VCCINT (power), J13 VCCPD3 (power), J15 VCCIO2 (power), K9 VCCINT (power), K11 VCCINT (power), K13 VCCINT (power), L8 VCCINT (power), L10 VCCINT (power), L12 VCCINT (power), L14 VCCPD2 (power), M9 VCCINT (power), M11 VCCINT (power), M13 VCCINT (power), N8 VCCINT (power), N10 VCCINT (power), N12 VCCINT (power), P9 VCCINT (power), P11 VCCINT (power), P13 VCCINT (power), P14 VCCPD1 (power), R8 VCCPD7 (power), R10 VCCINT (power), R13 VCCPD8 (power), R14 VCCIO1 (power), T18 VCCIO1 (power), U7 VCCIO7 (power), U9 VCCIO7 (power), U15 VCCIO8 (power), V13 VCCIO8 (power)
part N pins: J7 VCCA (power), L3 VCCA (power), L4 VCCR (power), L5 VCCT_B14 (power), L6 VCCH_B14 (power), L7 VCCP (power), M3 VCCA (power), M4 VCCR (power), M5 VCCT_B14 (power), M6 VCCH_B14 (power), M7 VCCP (power), N3 VCCL_B14 (power), P4 VCCA (power), P6 VCCA (power)
part O pins: E10 VCC_PLL5_OUT (power), G11 GNDA_PLL5 (power), G12 VCCA_PLL5 (power), H11 VCCD_PLL5 (power), H12 GNDA_PLL5 (power), K17 VCCD_PLL1 (power), K18 VCCA_PLL1 (power), L17 GNDA_PLL1 (power), L18 GNDA_PLL1 (power), M17 GNDA_PLL2 (power), M18 GNDA_PLL2 (power), N17 VCCD_PLL2 (power), N18 VCCA_PLL2 (power), T11 VCCD_PLL6 (power), T12 GNDA_PLL6 (power), U11 GNDA_PLL6 (power), U12 VCCA_PLL6 (power), V10 VCC_PLL6_OUT (power)
part P pins: AA1 GND (power), AA3 GND (power), AA6 GND (power), AA9 GND (power), AA12 GND (power), AA15 GND (power), AA18 GND (power), AA21 GND (power), B1 GND (power), B3 GND (power), B6 GND (power), B9 GND (power), B12 GND (power), B15 GND (power), B18 GND (power), B21 GND (power), D1 GND (power), D2 GND (power), D3 GND (power), D4 GND (power), D5 GND (power), D6 GND (power), E3 GND (power), E6 GND (power), E9 GND (power), E12 GND (power), E15 GND (power), E18 GND (power), E21 GND (power), F1 GND (power), F2 GND (power), F3 GND (power), F4 GND (power), F5 GND (power), F6 GND (power), G3 GND (power), G6 GND (power), H1 GND (power), H2 GND (power), H3 GND (power), H4 GND (power), H5 GND (power), H6 GND (power), H7 GND (power), H15 GND (power), H18 GND (power), H21 GND (power), J2 GND (power), J4 GND (power), J9 GND (power), J11 GND (power), J12 GND (power), K2 GND (power), K3 GND (power), K4 GND (power), K5 GND (power), K6 GND (power), K7 GND (power), K8 GND (power), K10 GND (power), K12 GND (power), L1 GND (power), L2 GND (power), L9 GND (power), L11 GND (power), L13 GND (power), M1 GND (power), M2 GND (power), M8 GND (power), M10 GND (power), M12 GND (power), N2 GND (power), N4 GND (power), N5 GND (power), N6 GND (power), N7 GND (power), N9 GND (power), N11 GND (power), N13 GND (power), P2 GND (power), P3 GND (power), P5 GND (power), P7 GND (power), P8 GND (power), P10 GND (power), P12 GND (power), R1 GND (power), R2 GND (power), R3 GND (power), R4 GND (power), R5 GND (power), R6 GND (power), R7 GND (power), R9 GND (power), R11 GND (power), R12 GND (power), R15 GND (power), R18 GND (power), R21 GND (power), T3 GND (power), T6 GND (power), T7 GND (power), U1 GND (power), U2 GND (power), U3 GND (power), U4 GND (power), U5 GND (power), U6 GND (power), V3 GND (power), V6 GND (power), V9 GND (power), V12 GND (power), V15 GND (power), V18 GND (power), V21 GND (power), W1 GND (power), W2 GND (power), W3 GND (power), W4 GND (power), W5 GND (power), W6 GND (power), Y2 GND (power)
part Q pins: E7 NC, E17 NC, E19 NC, F10 NC, J5 NC, J6 NC, U19 NC
part A text: BANK 1
part B text: BANK 2
part C text: BANK 3
part D text: BANK 4
part E text: BANK 7
part F text: BANK 8
part G text: BANK 9
part H text: BANK 10
part I text: BANK 14

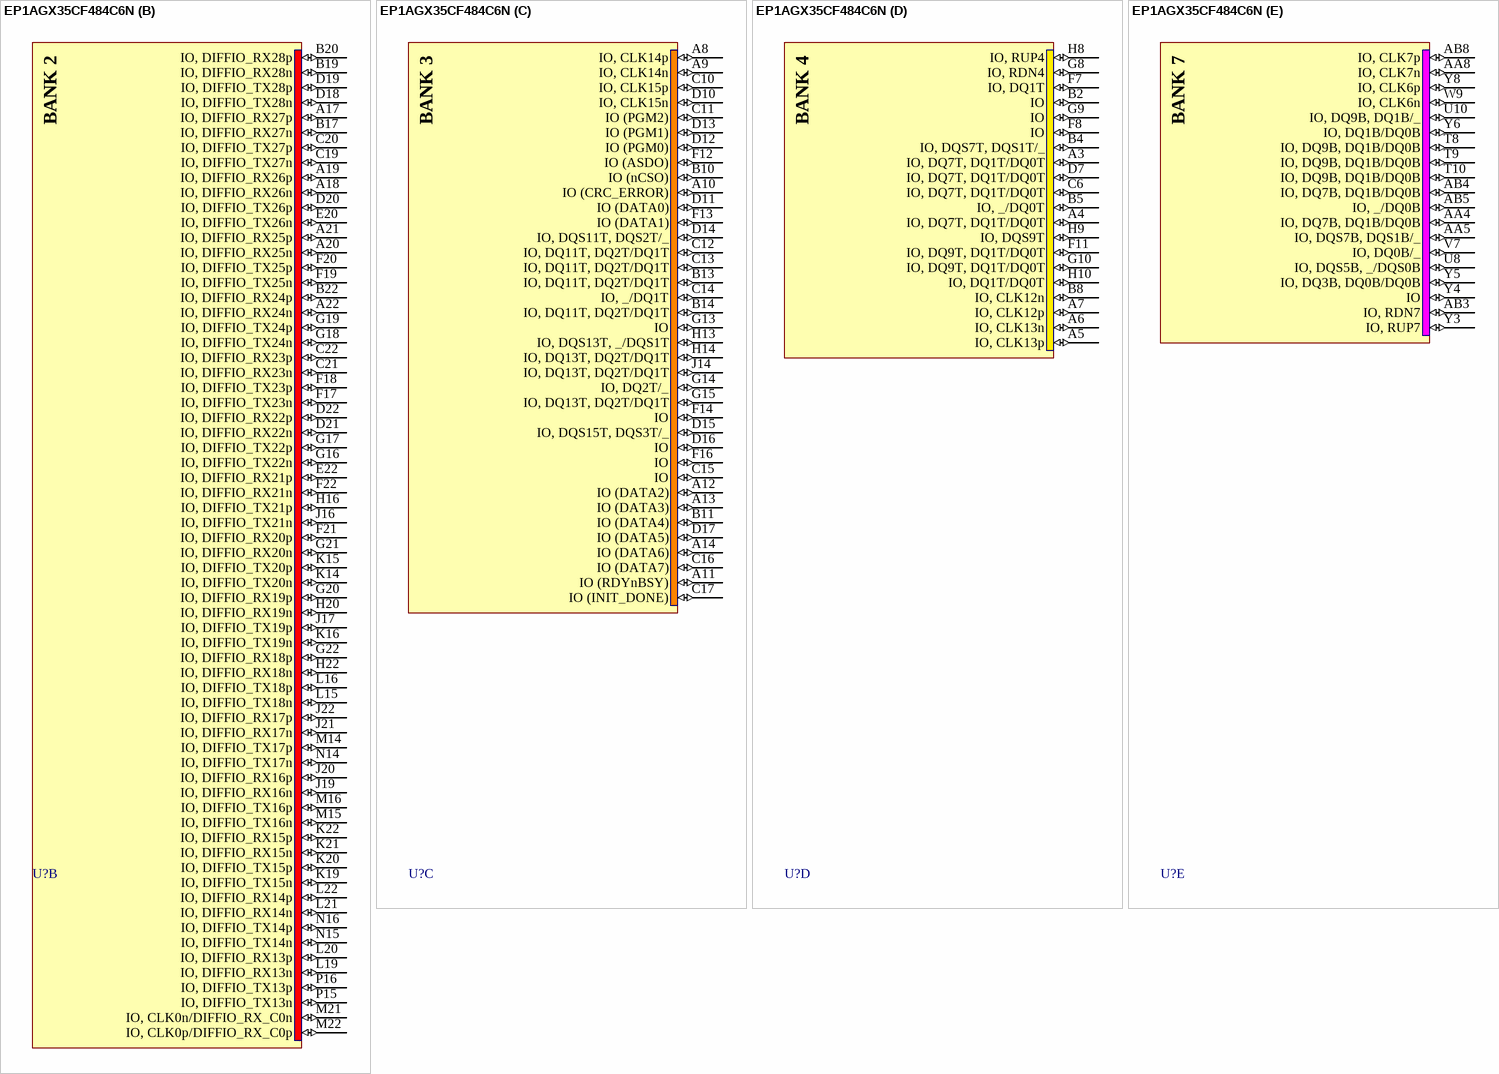
[diagram p27: symbol EP1AGX35CF484C6N]

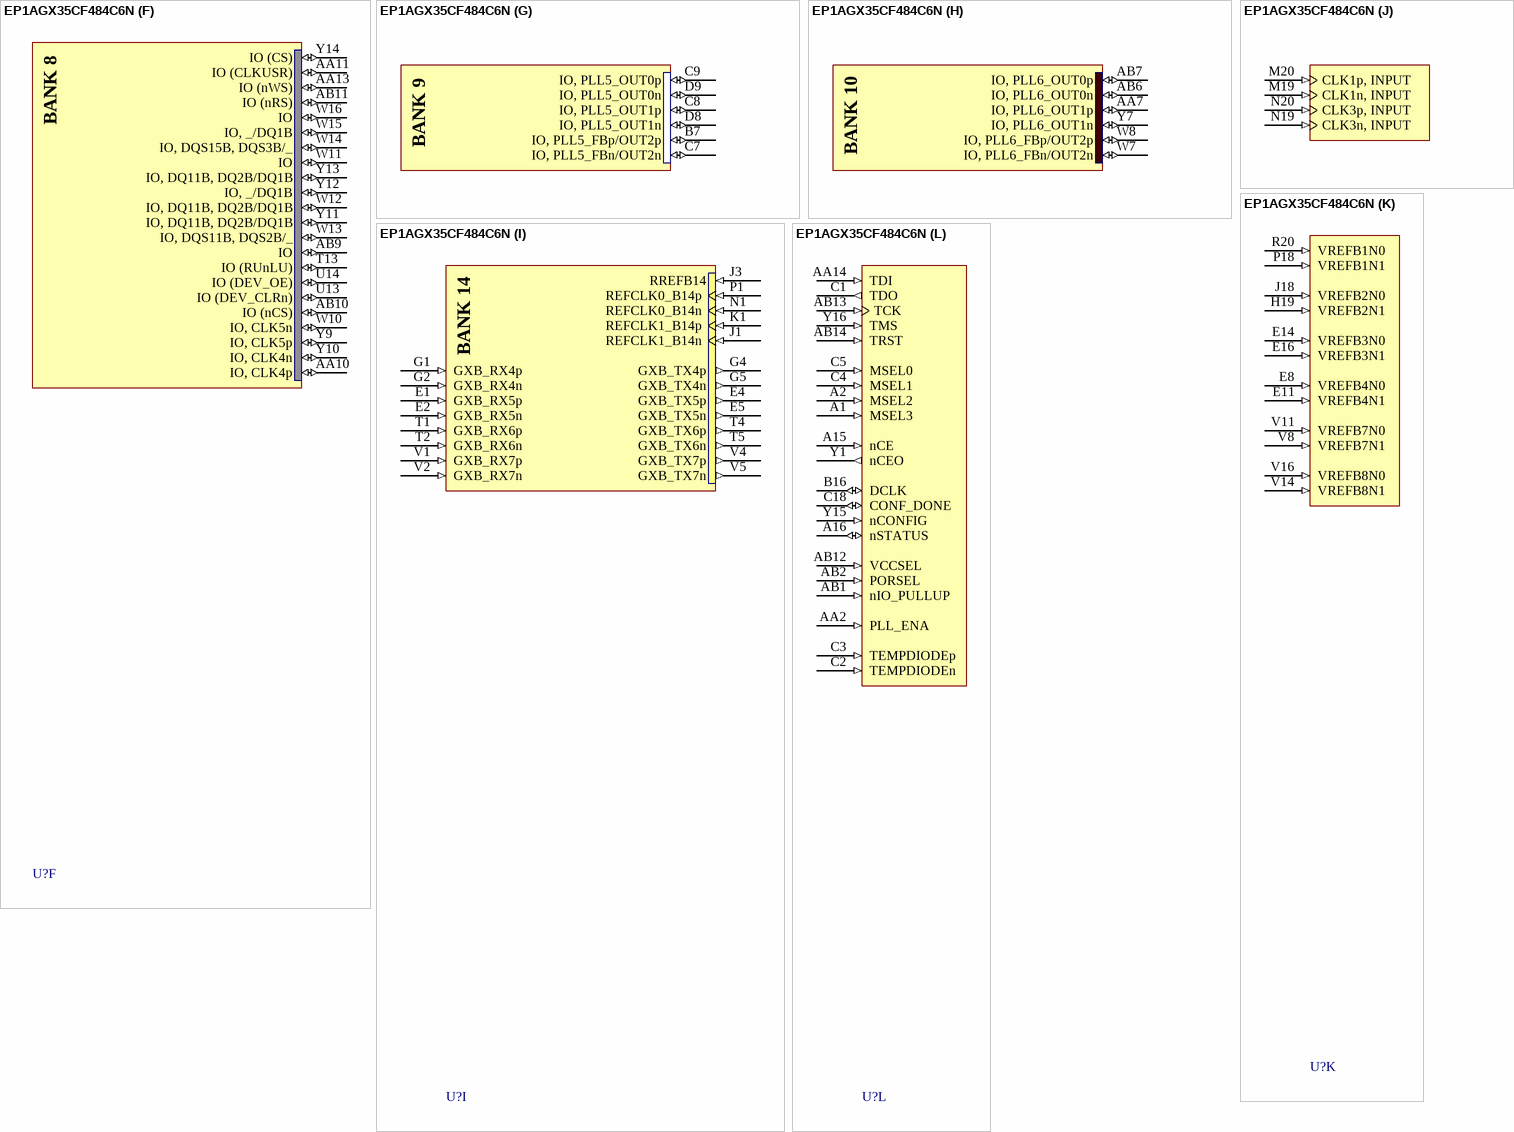
[diagram p28: symbol EP1AGX35CF484C6N]

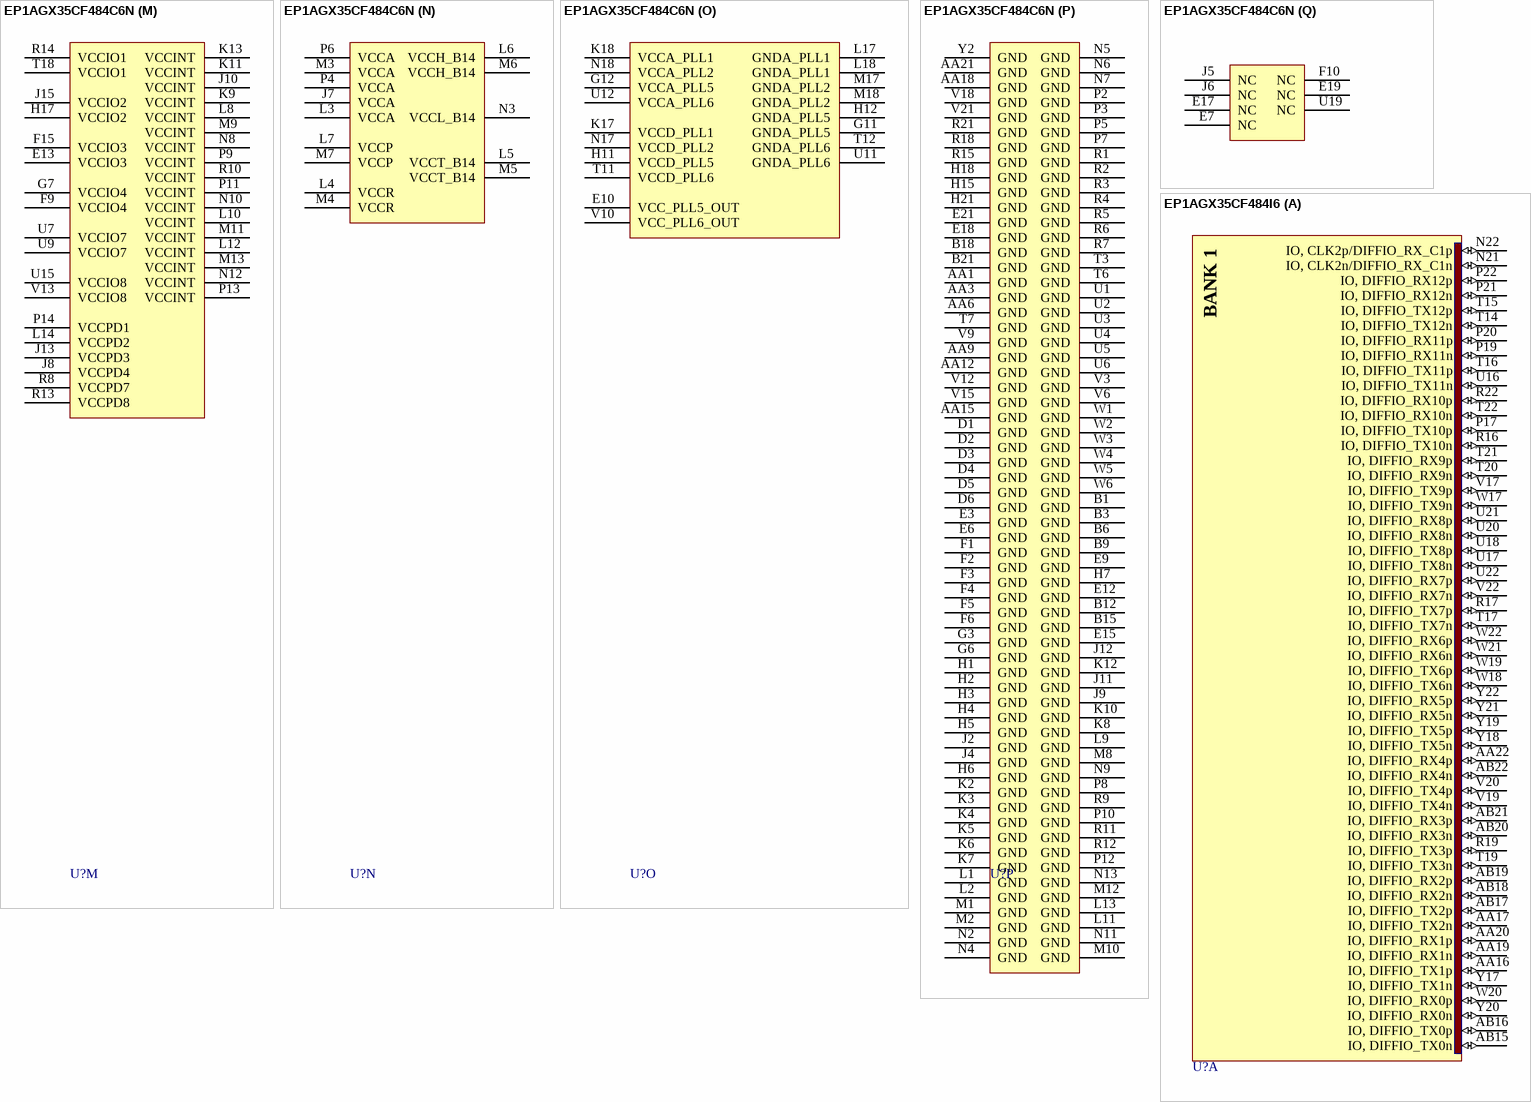
[diagram p29: symbols EP1AGX35CF484C6N to EP1AGX35CF484I6]